# Altium schematic symbol library MCU_Microchip_ATtiny.SchLib: 223 symbols (part 1 of 3)
Pins are listed as number, name and electrical type; pins without a type are passive.

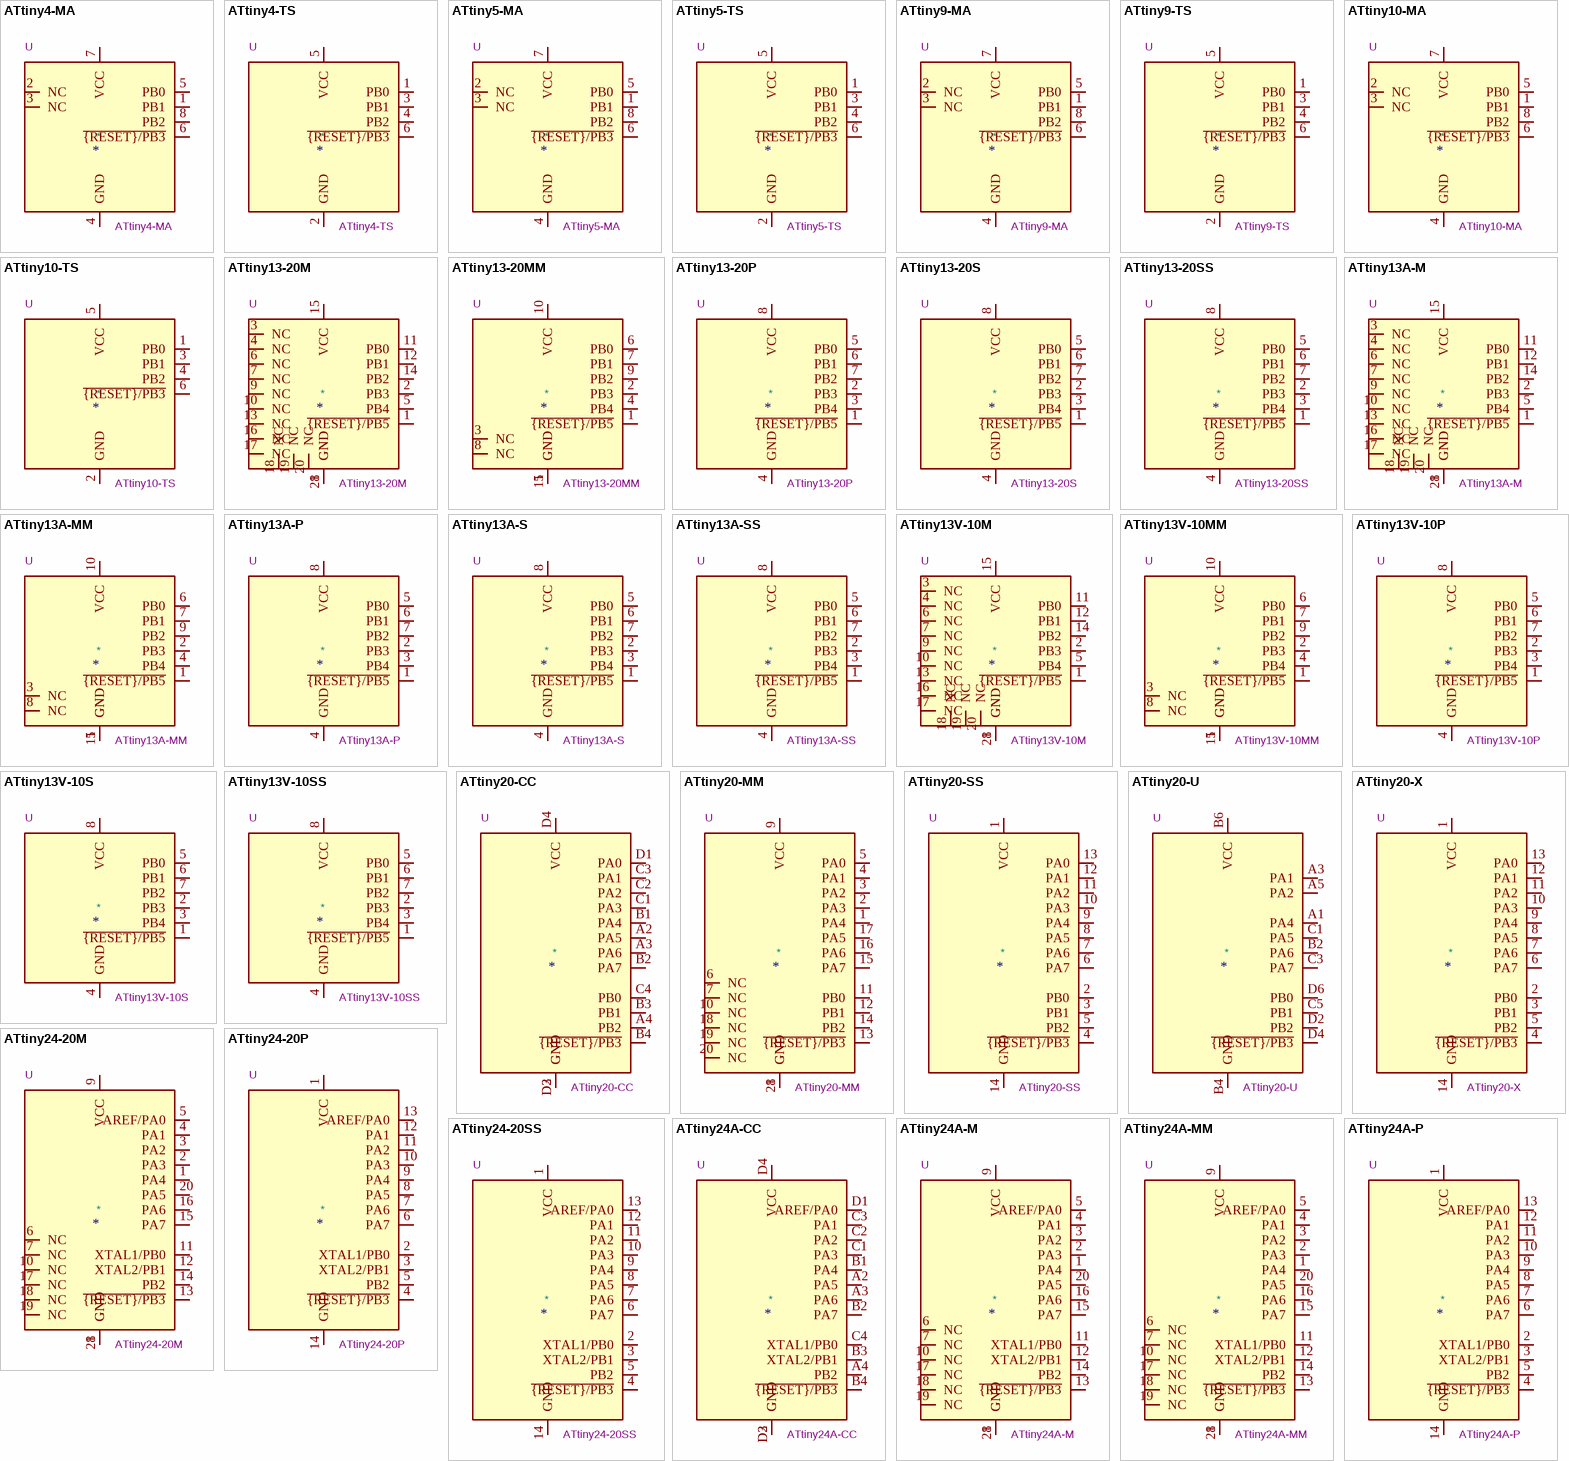
[diagram p0: symbols ATtiny4-MA to ATtiny24A-P]

## ATtiny4-MA
designator *  value ATtiny4-MA  Reference: U
12MHz, 512B Flash, 32B SRAM, No EEPROM, DFN-8; ki_keywords: AVR 8bit Microcontroller tinyAVR; ki_fp_filters: DFN*1EP*2x2mm*P0.5mm*; Footprint: Package_DFN_QFN:DFN-8-1EP_2x2mm_P0.5mm_EP0.9x1.5mm; Datasheet: http://ww1.microchip.com/downloads/en/DeviceDoc/Atmel-8127-AVR-8-bit-Microcontroller-ATtiny4-ATtiny5-ATtiny9-ATtiny10_Datasheet.pdf; Description_: 12MHz, 512B Flash, 32B SRAM, No EEPROM, DFN-8
pins: 1 PB1, 2 NC, 3 NC, 4 GND, 5 PB0, 6 ~{{RESET}/PB3}, 7 VCC, 8 PB2

## ATtiny4-TS
designator *  value ATtiny4-TS  Reference: U
12MHz, 512B Flash, 32B SRAM, No EEPROM, SOT-23-6; ki_keywords: AVR 8bit Microcontroller tinyAVR; ki_fp_filters: SOT?23?6*; Footprint: Package_TO_SOT_SMD:SOT-23-6; Datasheet: http://ww1.microchip.com/downloads/en/DeviceDoc/Atmel-8127-AVR-8-bit-Microcontroller-ATtiny4-ATtiny5-ATtiny9-ATtiny10_Datasheet.pdf; Description_: 12MHz, 512B Flash, 32B SRAM, No EEPROM, SOT-23-6
pins: 1 PB0, 2 GND, 3 PB1, 4 PB2, 5 VCC, 6 ~{{RESET}/PB3}

## ATtiny5-MA
designator *  value ATtiny5-MA  Reference: U
12MHz, 512B Flash, 32B SRAM, No EEPROM, ADC, DFN-8; ki_keywords: AVR 8bit Microcontroller tinyAVR; ki_fp_filters: DFN*1EP*2x2mm*P0.5mm*; Footprint: Package_DFN_QFN:DFN-8-1EP_2x2mm_P0.5mm_EP0.9x1.5mm; Datasheet: http://ww1.microchip.com/downloads/en/DeviceDoc/Atmel-8127-AVR-8-bit-Microcontroller-ATtiny4-ATtiny5-ATtiny9-ATtiny10_Datasheet.pdf; Description_: 12MHz, 512B Flash, 32B SRAM, No EEPROM, ADC, DFN-8
pins: 1 PB1, 2 NC, 3 NC, 4 GND, 5 PB0, 6 ~{{RESET}/PB3}, 7 VCC, 8 PB2

## ATtiny5-TS
designator *  value ATtiny5-TS  Reference: U
12MHz, 512B Flash, 32B SRAM, No EEPROM, ADC, SOT-23-6; ki_keywords: AVR 8bit Microcontroller tinyAVR; ki_fp_filters: SOT?23?6*; Footprint: Package_TO_SOT_SMD:SOT-23-6; Datasheet: http://ww1.microchip.com/downloads/en/DeviceDoc/Atmel-8127-AVR-8-bit-Microcontroller-ATtiny4-ATtiny5-ATtiny9-ATtiny10_Datasheet.pdf; Description_: 12MHz, 512B Flash, 32B SRAM, No EEPROM, ADC, SOT-23-6
pins: 1 PB0, 2 GND, 3 PB1, 4 PB2, 5 VCC, 6 ~{{RESET}/PB3}

## ATtiny9-MA
designator *  value ATtiny9-MA  Reference: U
12MHz, 1kB Flash, 32B SRAM, No EEPROM, DFN-8; ki_keywords: AVR 8bit Microcontroller tinyAVR; ki_fp_filters: DFN*1EP*2x2mm*P0.5mm*; Footprint: Package_DFN_QFN:DFN-8-1EP_2x2mm_P0.5mm_EP0.9x1.5mm; Datasheet: http://ww1.microchip.com/downloads/en/DeviceDoc/Atmel-8127-AVR-8-bit-Microcontroller-ATtiny4-ATtiny5-ATtiny9-ATtiny10_Datasheet.pdf; Description_: 12MHz, 1kB Flash, 32B SRAM, No EEPROM, DFN-8
pins: 1 PB1, 2 NC, 3 NC, 4 GND, 5 PB0, 6 ~{{RESET}/PB3}, 7 VCC, 8 PB2

## ATtiny9-TS
designator *  value ATtiny9-TS  Reference: U
12MHz, 1kB Flash, 32B SRAM, No EEPROM, SOT-23-6; ki_keywords: AVR 8bit Microcontroller tinyAVR; ki_fp_filters: SOT?23?6*; Footprint: Package_TO_SOT_SMD:SOT-23-6; Datasheet: http://ww1.microchip.com/downloads/en/DeviceDoc/Atmel-8127-AVR-8-bit-Microcontroller-ATtiny4-ATtiny5-ATtiny9-ATtiny10_Datasheet.pdf; Description_: 12MHz, 1kB Flash, 32B SRAM, No EEPROM, SOT-23-6
pins: 1 PB0, 2 GND, 3 PB1, 4 PB2, 5 VCC, 6 ~{{RESET}/PB3}

## ATtiny10-MA
designator *  value ATtiny10-MA  Reference: U
12MHz, 1kB Flash, 32B SRAM, No EEPROM, ADC, DFN-8; ki_keywords: AVR 8bit Microcontroller tinyAVR; ki_fp_filters: DFN*1EP*2x2mm*P0.5mm*; Footprint: Package_DFN_QFN:DFN-8-1EP_2x2mm_P0.5mm_EP0.9x1.5mm; Datasheet: http://ww1.microchip.com/downloads/en/DeviceDoc/Atmel-8127-AVR-8-bit-Microcontroller-ATtiny4-ATtiny5-ATtiny9-ATtiny10_Datasheet.pdf; Description_: 12MHz, 1kB Flash, 32B SRAM, No EEPROM, ADC, DFN-8
pins: 1 PB1, 2 NC, 3 NC, 4 GND, 5 PB0, 6 ~{{RESET}/PB3}, 7 VCC, 8 PB2

## ATtiny10-TS
designator *  value ATtiny10-TS  Reference: U
12MHz, 1kB Flash, 32B SRAM, No EEPROM, ADC, SOT-23-6; ki_keywords: AVR 8bit Microcontroller tinyAVR; ki_fp_filters: SOT?23?6*; Footprint: Package_TO_SOT_SMD:SOT-23-6; Datasheet: http://ww1.microchip.com/downloads/en/DeviceDoc/Atmel-8127-AVR-8-bit-Microcontroller-ATtiny4-ATtiny5-ATtiny9-ATtiny10_Datasheet.pdf; Description_: 12MHz, 1kB Flash, 32B SRAM, No EEPROM, ADC, SOT-23-6
pins: 1 PB0, 2 GND, 3 PB1, 4 PB2, 5 VCC, 6 ~{{RESET}/PB3}

## ATtiny13-20M
designator *  value ATtiny13-20M  Reference: U
20MHz, 1kB Flash, 64B SRAM, 64B EEPROM, debugWIRE, QFN-20; ki_keywords: AVR 8bit Microcontroller tinyAVR; ki_fp_filters: QFN*1EP*4x4mm*P0.5mm*; Footprint: Package_DFN_QFN:QFN-20-1EP_4x4mm_P0.5mm_EP2.6x2.6mm; Datasheet: http://ww1.microchip.com/downloads/en/DeviceDoc/doc2535.pdf; Description_: 20MHz, 1kB Flash, 64B SRAM, 64B EEPROM, debugWIRE, QFN-20
pins: 1 ~{{RESET}/PB5}, 2 PB3, 3 NC, 4 NC, 5 PB4, 6 NC, 7 NC, 8 GND, 9 NC, 10 NC, 11 PB0, 12 PB1, 13 NC, 14 PB2, 15 VCC, 16 NC, 17 NC, 18 NC, 19 NC, 20 NC, 21 GND

## ATtiny13-20MM
designator *  value ATtiny13-20MM  Reference: U
20MHz, 1kB Flash, 64B SRAM, 64B EEPROM, debugWIRE, DFN-10; ki_keywords: AVR 8bit Microcontroller tinyAVR; ki_fp_filters: DFN*1EP*3x3mm*P0.5mm*; Footprint: Package_DFN_QFN:DFN-10-1EP_3x3mm_P0.5mm_EP1.75x2.7mm; Datasheet: http://ww1.microchip.com/downloads/en/DeviceDoc/doc2535.pdf; Description_: 20MHz, 1kB Flash, 64B SRAM, 64B EEPROM, debugWIRE, DFN-10
pins: 1 ~{{RESET}/PB5}, 2 PB3, 3 NC, 4 PB4, 5 GND, 6 PB0, 7 PB1, 8 NC, 9 PB2, 10 VCC, 11 GND

## ATtiny13-20P
designator *  value ATtiny13-20P  Reference: U
20MHz, 1kB Flash, 64B SRAM, 64B EEPROM, debugWIRE, DIP-8; ki_keywords: AVR 8bit Microcontroller tinyAVR; ki_fp_filters: DIP*W7.62mm*; Footprint: Package_DIP:DIP-8_W7.62mm; Datasheet: http://ww1.microchip.com/downloads/en/DeviceDoc/doc2535.pdf; Description_: 20MHz, 1kB Flash, 64B SRAM, 64B EEPROM, debugWIRE, DIP-8
pins: 1 ~{{RESET}/PB5}, 2 PB3, 3 PB4, 4 GND, 5 PB0, 6 PB1, 7 PB2, 8 VCC

## ATtiny13-20S
designator *  value ATtiny13-20S  Reference: U
20MHz, 1kB Flash, 64B SRAM, 64B EEPROM, debugWIRE, SOIC-8 (208 mil); ki_keywords: AVR 8bit Microcontroller tinyAVR; ki_fp_filters: *SOIC*5.3x5.3mm*P1.27mm*; Footprint: Package_SO:SOIC-8_5.3x5.3mm_P1.27mm; Datasheet: http://ww1.microchip.com/downloads/en/DeviceDoc/doc2535.pdf; Description_: 20MHz, 1kB Flash, 64B SRAM, 64B EEPROM, debugWIRE, SOIC-8 (208 mil)
pins: 1 ~{{RESET}/PB5}, 2 PB3, 3 PB4, 4 GND, 5 PB0, 6 PB1, 7 PB2, 8 VCC

## ATtiny13-20SS
designator *  value ATtiny13-20SS  Reference: U
20MHz, 1kB Flash, 64B SRAM, 64B EEPROM, debugWIRE, SOIC-8 (150 mil); ki_keywords: AVR 8bit Microcontroller tinyAVR; ki_fp_filters: SOIC*3.9x4.9mm*P1.27mm*; Footprint: Package_SO:SOIC-8_3.9x4.9mm_P1.27mm; Datasheet: http://ww1.microchip.com/downloads/en/DeviceDoc/doc2535.pdf; Description_: 20MHz, 1kB Flash, 64B SRAM, 64B EEPROM, debugWIRE, SOIC-8 (150 mil)
pins: 1 ~{{RESET}/PB5}, 2 PB3, 3 PB4, 4 GND, 5 PB0, 6 PB1, 7 PB2, 8 VCC

## ATtiny13A-M
designator *  value ATtiny13A-M  Reference: U
20MHz, 1kB Flash, 64B SRAM, 64B EEPROM, debugWIRE, QFN-20; ki_keywords: AVR 8bit Microcontroller tinyAVR; ki_fp_filters: QFN*1EP*4x4mm*P0.5mm*; Footprint: Package_DFN_QFN:QFN-20-1EP_4x4mm_P0.5mm_EP2.6x2.6mm; Datasheet: http://ww1.microchip.com/downloads/en/DeviceDoc/doc8126.pdf; Description_: 20MHz, 1kB Flash, 64B SRAM, 64B EEPROM, debugWIRE, QFN-20
pins: 1 ~{{RESET}/PB5}, 2 PB3, 3 NC, 4 NC, 5 PB4, 6 NC, 7 NC, 8 GND, 9 NC, 10 NC, 11 PB0, 12 PB1, 13 NC, 14 PB2, 15 VCC, 16 NC, 17 NC, 18 NC, 19 NC, 20 NC, 21 GND

## ATtiny13A-MM
designator *  value ATtiny13A-MM  Reference: U
20MHz, 1kB Flash, 64B SRAM, 64B EEPROM, debugWIRE, DFN-10; ki_keywords: AVR 8bit Microcontroller tinyAVR; ki_fp_filters: DFN*1EP*3x3mm*P0.5mm*; Footprint: Package_DFN_QFN:DFN-10-1EP_3x3mm_P0.5mm_EP1.75x2.7mm; Datasheet: http://ww1.microchip.com/downloads/en/DeviceDoc/doc8126.pdf; Description_: 20MHz, 1kB Flash, 64B SRAM, 64B EEPROM, debugWIRE, DFN-10
pins: 1 ~{{RESET}/PB5}, 2 PB3, 3 NC, 4 PB4, 5 GND, 6 PB0, 7 PB1, 8 NC, 9 PB2, 10 VCC, 11 GND

## ATtiny13A-P
designator *  value ATtiny13A-P  Reference: U
20MHz, 1kB Flash, 64B SRAM, 64B EEPROM, debugWIRE, DIP-8; ki_keywords: AVR 8bit Microcontroller tinyAVR; ki_fp_filters: DIP*W7.62mm*; Footprint: Package_DIP:DIP-8_W7.62mm; Datasheet: http://ww1.microchip.com/downloads/en/DeviceDoc/doc8126.pdf; Description_: 20MHz, 1kB Flash, 64B SRAM, 64B EEPROM, debugWIRE, DIP-8
pins: 1 ~{{RESET}/PB5}, 2 PB3, 3 PB4, 4 GND, 5 PB0, 6 PB1, 7 PB2, 8 VCC

## ATtiny13A-S
designator *  value ATtiny13A-S  Reference: U
20MHz, 1kB Flash, 64B SRAM, 64B EEPROM, debugWIRE, SOIC-8 (208 mil); ki_keywords: AVR 8bit Microcontroller tinyAVR; ki_fp_filters: *SOIC*5.3x5.3mm*P1.27mm*; Footprint: Package_SO:SOIC-8_5.3x5.3mm_P1.27mm; Datasheet: https://ww1.microchip.com/downloads/aemDocuments/documents/MCU08/ProductDocuments/DataSheets/ATtiny13A-Data-Sheet-DS40002307A.pdf; Description_: 20MHz, 1kB Flash, 64B SRAM, 64B EEPROM, debugWIRE, SOIC-8 (208 mil)
pins: 1 ~{{RESET}/PB5}, 2 PB3, 3 PB4, 4 GND, 5 PB0, 6 PB1, 7 PB2, 8 VCC

## ATtiny13A-SS
designator *  value ATtiny13A-SS  Reference: U
20MHz, 1kB Flash, 64B SRAM, 64B EEPROM, debugWIRE, SOIC-8 (150 mil); ki_keywords: AVR 8bit Microcontroller tinyAVR; ki_fp_filters: SOIC*3.9x4.9mm*P1.27mm*; Footprint: Package_SO:SOIC-8_3.9x4.9mm_P1.27mm; Datasheet: http://ww1.microchip.com/downloads/en/DeviceDoc/doc8126.pdf; Description_: 20MHz, 1kB Flash, 64B SRAM, 64B EEPROM, debugWIRE, SOIC-8 (150 mil)
pins: 1 ~{{RESET}/PB5}, 2 PB3, 3 PB4, 4 GND, 5 PB0, 6 PB1, 7 PB2, 8 VCC

## ATtiny13V-10M
designator *  value ATtiny13V-10M  Reference: U
10MHz, 1kB Flash, 64B SRAM, 64B EEPROM, debugWIRE, QFN-20; ki_keywords: AVR 8bit Microcontroller tinyAVR; ki_fp_filters: QFN*1EP*4x4mm*P0.5mm*; Footprint: Package_DFN_QFN:QFN-20-1EP_4x4mm_P0.5mm_EP2.6x2.6mm; Datasheet: http://ww1.microchip.com/downloads/en/DeviceDoc/doc2535.pdf; Description_: 10MHz, 1kB Flash, 64B SRAM, 64B EEPROM, debugWIRE, QFN-20
pins: 1 ~{{RESET}/PB5}, 2 PB3, 3 NC, 4 NC, 5 PB4, 6 NC, 7 NC, 8 GND, 9 NC, 10 NC, 11 PB0, 12 PB1, 13 NC, 14 PB2, 15 VCC, 16 NC, 17 NC, 18 NC, 19 NC, 20 NC, 21 GND

## ATtiny13V-10MM
designator *  value ATtiny13V-10MM  Reference: U
10MHz, 1kB Flash, 64B SRAM, 64B EEPROM, debugWIRE, DFN-10; ki_keywords: AVR 8bit Microcontroller tinyAVR; ki_fp_filters: DFN*1EP*3x3mm*P0.5mm*; Footprint: Package_DFN_QFN:DFN-10-1EP_3x3mm_P0.5mm_EP1.75x2.7mm; Datasheet: http://ww1.microchip.com/downloads/en/DeviceDoc/doc2535.pdf; Description_: 10MHz, 1kB Flash, 64B SRAM, 64B EEPROM, debugWIRE, DFN-10
pins: 1 ~{{RESET}/PB5}, 2 PB3, 3 NC, 4 PB4, 5 GND, 6 PB0, 7 PB1, 8 NC, 9 PB2, 10 VCC, 11 GND

## ATtiny13V-10P
designator *  value ATtiny13V-10P  Reference: U
10MHz, 1kB Flash, 64B SRAM, 64B EEPROM, debugWIRE, DIP-8; ki_keywords: AVR 8bit Microcontroller tinyAVR; ki_fp_filters: DIP*W7.62mm*; Footprint: Package_DIP:DIP-8_W7.62mm; Datasheet: http://ww1.microchip.com/downloads/en/DeviceDoc/doc2535.pdf; Description_: 10MHz, 1kB Flash, 64B SRAM, 64B EEPROM, debugWIRE, DIP-8
pins: 1 ~{{RESET}/PB5}, 2 PB3, 3 PB4, 4 GND, 5 PB0, 6 PB1, 7 PB2, 8 VCC

## ATtiny13V-10S
designator *  value ATtiny13V-10S  Reference: U
10MHz, 1kB Flash, 64B SRAM, 64B EEPROM, debugWIRE, SOIC-8 (208 mil); ki_keywords: AVR 8bit Microcontroller tinyAVR; ki_fp_filters: *SOIC*5.3x5.3mm*P1.27mm*; Footprint: Package_SO:SOIC-8_5.3x5.3mm_P1.27mm; Datasheet: http://ww1.microchip.com/downloads/en/DeviceDoc/doc2535.pdf; Description_: 10MHz, 1kB Flash, 64B SRAM, 64B EEPROM, debugWIRE, SOIC-8 (208 mil)
pins: 1 ~{{RESET}/PB5}, 2 PB3, 3 PB4, 4 GND, 5 PB0, 6 PB1, 7 PB2, 8 VCC

## ATtiny13V-10SS
designator *  value ATtiny13V-10SS  Reference: U
10MHz, 1kB Flash, 64B SRAM, 64B EEPROM, debugWIRE, SOIC-8 (150 mil); ki_keywords: AVR 8bit Microcontroller tinyAVR; ki_fp_filters: SOIC*3.9x4.9mm*P1.27mm*; Footprint: Package_SO:SOIC-8_3.9x4.9mm_P1.27mm; Datasheet: http://ww1.microchip.com/downloads/en/DeviceDoc/doc2535.pdf; Description_: 10MHz, 1kB Flash, 64B SRAM, 64B EEPROM, debugWIRE, SOIC-8 (150 mil)
pins: 1 ~{{RESET}/PB5}, 2 PB3, 3 PB4, 4 GND, 5 PB0, 6 PB1, 7 PB2, 8 VCC

## ATtiny20-CC
designator *  value ATtiny20-CC  Reference: U
12MHz, 2kB Flash, 128B SRAM, No EEPROM, UFBGA-15; ki_keywords: AVR 8bit Microcontroller tinyAVR; ki_fp_filters: UFBGA*3.0x3.0mm*Layout4x4*P0.65mm*; Footprint: Package_BGA:UFBGA-15_3.0x3.0mm_Layout4x4_P0.65mm; Datasheet: http://ww1.microchip.com/downloads/en/DeviceDoc/atmel-8235-8-bit-avr-microcontroller-attiny20_datasheet.pdf; Description_: 12MHz, 2kB Flash, 128B SRAM, No EEPROM, UFBGA-15
pins: A2 PA5, A3 PA6, A4 PB2, B1 PA4, B2 PA7, B3 PB1, B4 ~{{RESET}/PB3}, C1 PA3, C2 PA2, C3 PA1, C4 PB0, D1 PA0, D2 GND, D3 GND, D4 VCC

## ATtiny20-MM
designator *  value ATtiny20-MM  Reference: U
12MHz, 2kB Flash, 128B SRAM, No EEPROM, QFN-20; ki_keywords: AVR 8bit Microcontroller tinyAVR; ki_fp_filters: QFN*1EP*3x3mm*P0.45mm*; Footprint: Package_DFN_QFN:QFN-20-1EP_3x3mm_P0.45mm_EP1.6x1.6mm; Datasheet: http://ww1.microchip.com/downloads/en/DeviceDoc/atmel-8235-8-bit-avr-microcontroller-attiny20_datasheet.pdf; Description_: 12MHz, 2kB Flash, 128B SRAM, No EEPROM, QFN-20
pins: 1 PA4, 2 PA3, 3 PA2, 4 PA1, 5 PA0, 6 NC, 7 NC, 8 GND, 9 VCC, 10 NC, 11 PB0, 12 PB1, 13 ~{{RESET}/PB3}, 14 PB2, 15 PA7, 16 PA6, 17 PA5, 18 NC, 19 NC, 20 NC, 21 GND

## ATtiny20-SS
designator *  value ATtiny20-SS  Reference: U
12MHz, 2kB Flash, 128B SRAM, No EEPROM, SOIC-14; ki_keywords: AVR 8bit Microcontroller tinyAVR; ki_fp_filters: SOIC*3.9x8.7mm*P1.27mm*; Footprint: Package_SO:SOIC-14_3.9x8.7mm_P1.27mm; Datasheet: http://ww1.microchip.com/downloads/en/DeviceDoc/atmel-8235-8-bit-avr-microcontroller-attiny20_datasheet.pdf; Description_: 12MHz, 2kB Flash, 128B SRAM, No EEPROM, SOIC-14
pins: 1 VCC, 2 PB0, 3 PB1, 4 ~{{RESET}/PB3}, 5 PB2, 6 PA7, 7 PA6, 8 PA5, 9 PA4, 10 PA3, 11 PA2, 12 PA1, 13 PA0, 14 GND

## ATtiny20-U
designator *  value ATtiny20-U  Reference: U
12MHz, 2kB Flash, 128B SRAM, No EEPROM, WLCSP-12; ki_keywords: AVR 8bit Microcontroller tinyAVR; ki_fp_filters: WLCSP*1.403x1.555mm*Layout6x4*P0.4mm*Stagger*; Footprint: Package_CSP:WLCSP-12_1.403x1.555mm_Layout6x4_P0.4mm_Stagger; Datasheet: http://ww1.microchip.com/downloads/en/DeviceDoc/atmel-8235-8-bit-avr-microcontroller-attiny20_datasheet.pdf; Description_: 12MHz, 2kB Flash, 128B SRAM, No EEPROM, WLCSP-12
pins: A1 PA4, A3 PA1, A5 PA2, B2 PA6, B4 GND, B6 VCC, C1 PA5, C3 PA7, C5 PB1, D2 PB2, D4 ~{{RESET}/PB3}, D6 PB0

## ATtiny20-X
designator *  value ATtiny20-X  Reference: U
12MHz, 2kB Flash, 128B SRAM, No EEPROM, TSSOP-14; ki_keywords: AVR 8bit Microcontroller tinyAVR; ki_fp_filters: TSSOP*4.4x5mm*P0.65mm*; Footprint: Package_SO:TSSOP-14_4.4x5mm_P0.65mm; Datasheet: http://ww1.microchip.com/downloads/en/DeviceDoc/atmel-8235-8-bit-avr-microcontroller-attiny20_datasheet.pdf; Description_: 12MHz, 2kB Flash, 128B SRAM, No EEPROM, TSSOP-14
pins: 1 VCC, 2 PB0, 3 PB1, 4 ~{{RESET}/PB3}, 5 PB2, 6 PA7, 7 PA6, 8 PA5, 9 PA4, 10 PA3, 11 PA2, 12 PA1, 13 PA0, 14 GND

## ATtiny24-20M
designator *  value ATtiny24-20M  Reference: U
20MHz, 2kB Flash, 128B SRAM, 128B EEPROM, debugWIRE, QFN-20; ki_keywords: AVR 8bit Microcontroller tinyAVR; ki_fp_filters: QFN*1EP*4x4mm*P0.5mm*; Footprint: Package_DFN_QFN:QFN-20-1EP_4x4mm_P0.5mm_EP2.6x2.6mm; Datasheet: http://ww1.microchip.com/downloads/en/DeviceDoc/doc8006.pdf; Description_: 20MHz, 2kB Flash, 128B SRAM, 128B EEPROM, debugWIRE, QFN-20
pins: 1 PA4, 2 PA3, 3 PA2, 4 PA1, 5 AREF/PA0, 6 NC, 7 NC, 8 GND, 9 VCC, 10 NC, 11 XTAL1/PB0, 12 XTAL2/PB1, 13 ~{{RESET}/PB3}, 14 PB2, 15 PA7, 16 PA6, 17 NC, 18 NC, 19 NC, 20 PA5, 21 GND

## ATtiny24-20P
designator *  value ATtiny24-20P  Reference: U
20MHz, 2kB Flash, 128B SRAM, 128B EEPROM, debugWIRE, DIP-14; ki_keywords: AVR 8bit Microcontroller tinyAVR; ki_fp_filters: DIP*W7.62mm*; Footprint: Package_DIP:DIP-14_W7.62mm; Datasheet: http://ww1.microchip.com/downloads/en/DeviceDoc/doc8006.pdf; Description_: 20MHz, 2kB Flash, 128B SRAM, 128B EEPROM, debugWIRE, DIP-14
pins: 1 VCC, 2 XTAL1/PB0, 3 XTAL2/PB1, 4 ~{{RESET}/PB3}, 5 PB2, 6 PA7, 7 PA6, 8 PA5, 9 PA4, 10 PA3, 11 PA2, 12 PA1, 13 AREF/PA0, 14 GND

## ATtiny24-20SS
designator *  value ATtiny24-20SS  Reference: U
20MHz, 2kB Flash, 128B SRAM, 128B EEPROM, debugWIRE, SOIC-14; ki_keywords: AVR 8bit Microcontroller tinyAVR; ki_fp_filters: SOIC*3.9x8.7mm*P1.27mm*; Footprint: Package_SO:SOIC-14_3.9x8.7mm_P1.27mm; Datasheet: http://ww1.microchip.com/downloads/en/DeviceDoc/doc8006.pdf; Description_: 20MHz, 2kB Flash, 128B SRAM, 128B EEPROM, debugWIRE, SOIC-14
pins: 1 VCC, 2 XTAL1/PB0, 3 XTAL2/PB1, 4 ~{{RESET}/PB3}, 5 PB2, 6 PA7, 7 PA6, 8 PA5, 9 PA4, 10 PA3, 11 PA2, 12 PA1, 13 AREF/PA0, 14 GND

## ATtiny24A-CC
designator *  value ATtiny24A-CC  Reference: U
20MHz, 2kB Flash, 128B SRAM, 128B EEPROM, debugWIRE, UFBGA-15; ki_keywords: AVR 8bit Microcontroller tinyAVR; ki_fp_filters: UFBGA*3.0x3.0mm*Layout4x4*P0.65mm*; Footprint: Package_BGA:UFBGA-15_3.0x3.0mm_Layout4x4_P0.65mm; Datasheet: http://ww1.microchip.com/downloads/en/DeviceDoc/doc8183.pdf; Description_: 20MHz, 2kB Flash, 128B SRAM, 128B EEPROM, debugWIRE, UFBGA-15
pins: A2 PA5, A3 PA6, A4 PB2, B1 PA4, B2 PA7, B3 XTAL2/PB1, B4 ~{{RESET}/PB3}, C1 PA3, C2 PA2, C3 PA1, C4 XTAL1/PB0, D1 AREF/PA0, D2 GND, D3 GND, D4 VCC

## ATtiny24A-M
designator *  value ATtiny24A-M  Reference: U
20MHz, 2kB Flash, 128B SRAM, 128B EEPROM, debugWIRE, QFN-20; ki_keywords: AVR 8bit Microcontroller tinyAVR; ki_fp_filters: QFN*1EP*4x4mm*P0.5mm*; Footprint: Package_DFN_QFN:QFN-20-1EP_4x4mm_P0.5mm_EP2.6x2.6mm; Datasheet: http://ww1.microchip.com/downloads/en/DeviceDoc/doc8183.pdf; Description_: 20MHz, 2kB Flash, 128B SRAM, 128B EEPROM, debugWIRE, QFN-20
pins: 1 PA4, 2 PA3, 3 PA2, 4 PA1, 5 AREF/PA0, 6 NC, 7 NC, 8 GND, 9 VCC, 10 NC, 11 XTAL1/PB0, 12 XTAL2/PB1, 13 ~{{RESET}/PB3}, 14 PB2, 15 PA7, 16 PA6, 17 NC, 18 NC, 19 NC, 20 PA5, 21 GND

## ATtiny24A-MM
designator *  value ATtiny24A-MM  Reference: U
20MHz, 2kB Flash, 128B SRAM, 128B EEPROM, debugWIRE, QFN-20; ki_keywords: AVR 8bit Microcontroller tinyAVR; ki_fp_filters: QFN*1EP*3x3mm*P0.45mm*; Footprint: Package_DFN_QFN:QFN-20-1EP_3x3mm_P0.45mm_EP1.6x1.6mm; Datasheet: http://ww1.microchip.com/downloads/en/DeviceDoc/doc8183.pdf; Description_: 20MHz, 2kB Flash, 128B SRAM, 128B EEPROM, debugWIRE, QFN-20
pins: 1 PA4, 2 PA3, 3 PA2, 4 PA1, 5 AREF/PA0, 6 NC, 7 NC, 8 GND, 9 VCC, 10 NC, 11 XTAL1/PB0, 12 XTAL2/PB1, 13 ~{{RESET}/PB3}, 14 PB2, 15 PA7, 16 PA6, 17 NC, 18 NC, 19 NC, 20 PA5, 21 GND

## ATtiny24A-P
designator *  value ATtiny24A-P  Reference: U
20MHz, 2kB Flash, 128B SRAM, 128B EEPROM, debugWIRE, DIP-14; ki_keywords: AVR 8bit Microcontroller tinyAVR; ki_fp_filters: DIP*W7.62mm*; Footprint: Package_DIP:DIP-14_W7.62mm; Datasheet: http://ww1.microchip.com/downloads/en/DeviceDoc/doc8183.pdf; Description_: 20MHz, 2kB Flash, 128B SRAM, 128B EEPROM, debugWIRE, DIP-14
pins: 1 VCC, 2 XTAL1/PB0, 3 XTAL2/PB1, 4 ~{{RESET}/PB3}, 5 PB2, 6 PA7, 7 PA6, 8 PA5, 9 PA4, 10 PA3, 11 PA2, 12 PA1, 13 AREF/PA0, 14 GND

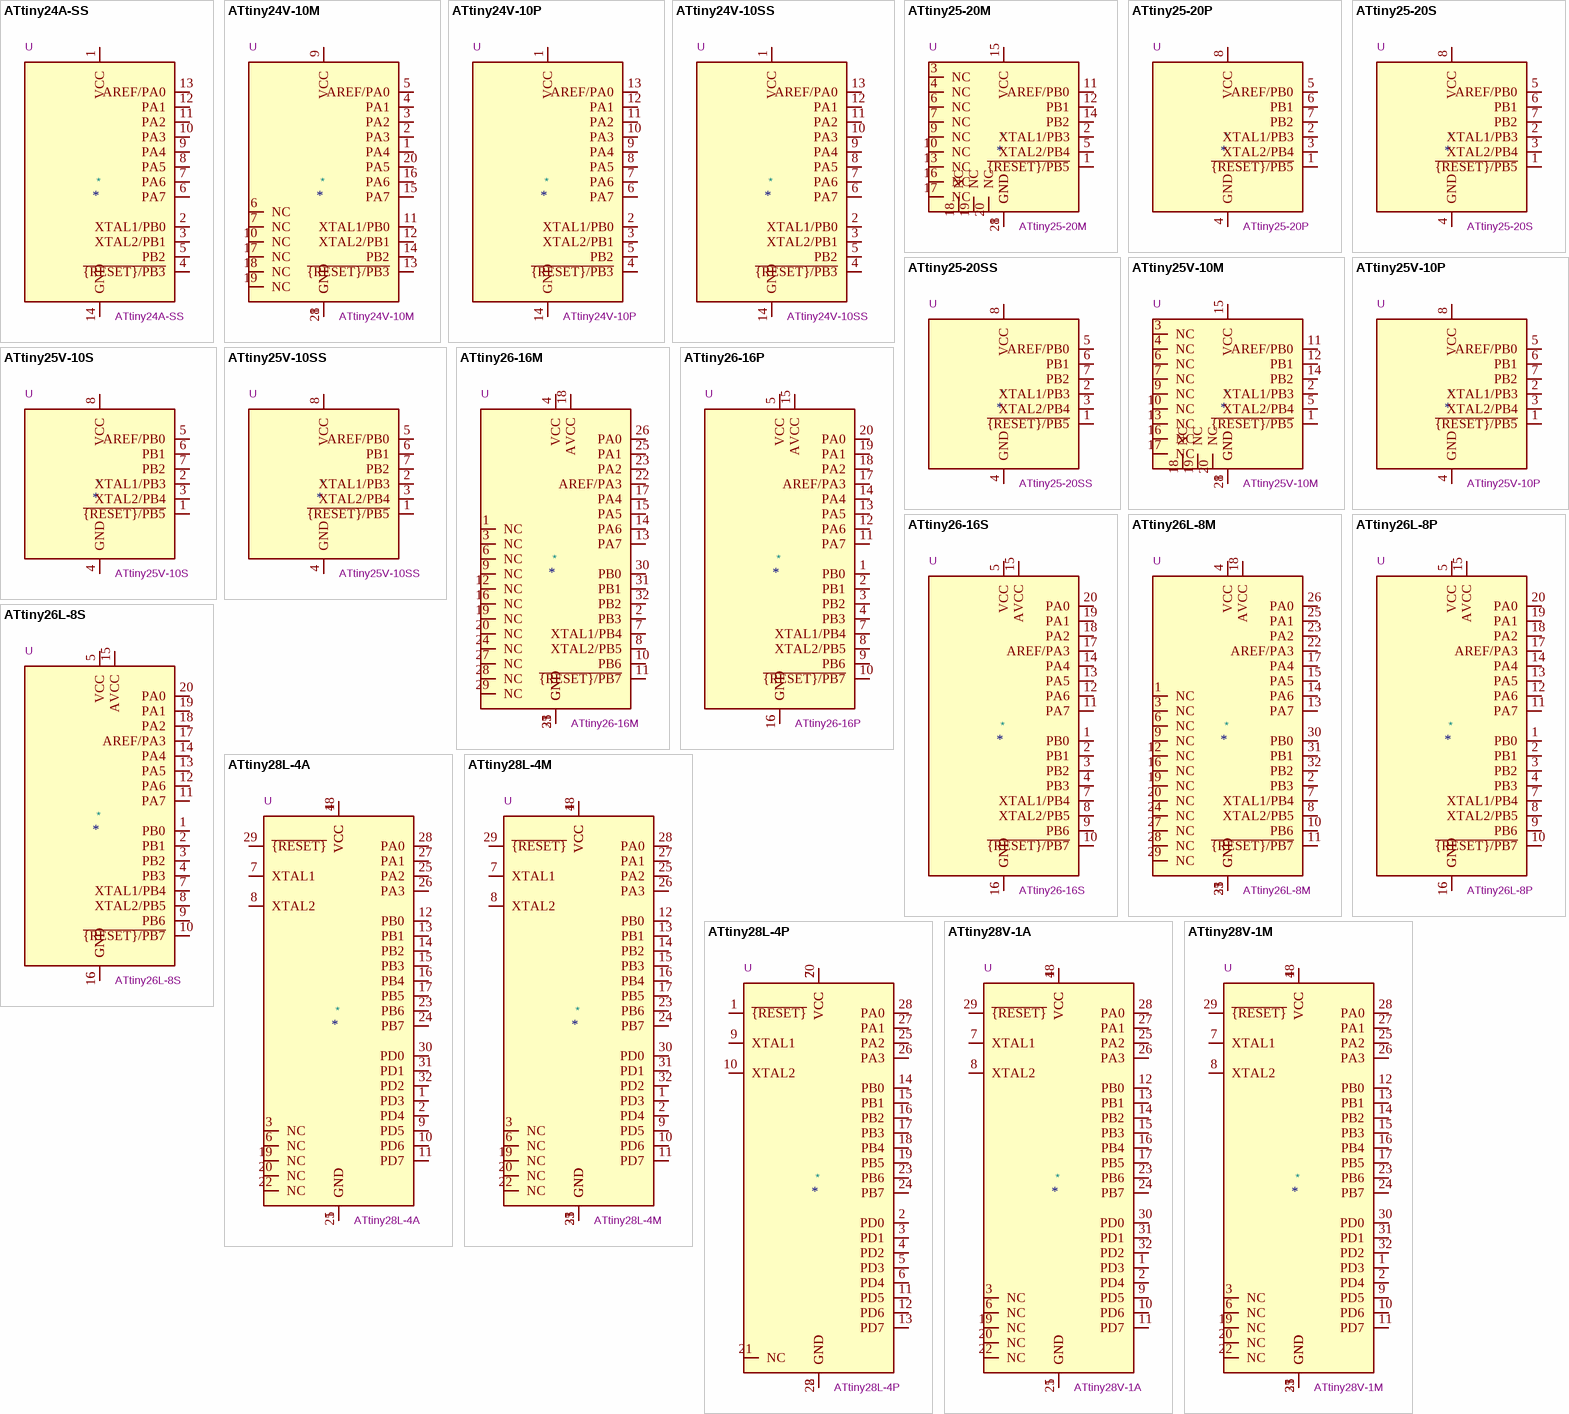
[diagram p1: symbols ATtiny24A-SS to ATtiny28V-1M]

## ATtiny24A-SS
designator *  value ATtiny24A-SS  Reference: U
20MHz, 2kB Flash, 128B SRAM, 128B EEPROM, debugWIRE, SOIC-14; ki_keywords: AVR 8bit Microcontroller tinyAVR; ki_fp_filters: SOIC*3.9x8.7mm*P1.27mm*; Footprint: Package_SO:SOIC-14_3.9x8.7mm_P1.27mm; Datasheet: http://ww1.microchip.com/downloads/en/DeviceDoc/doc8183.pdf; Description_: 20MHz, 2kB Flash, 128B SRAM, 128B EEPROM, debugWIRE, SOIC-14
pins: 1 VCC, 2 XTAL1/PB0, 3 XTAL2/PB1, 4 ~{{RESET}/PB3}, 5 PB2, 6 PA7, 7 PA6, 8 PA5, 9 PA4, 10 PA3, 11 PA2, 12 PA1, 13 AREF/PA0, 14 GND

## ATtiny24V-10M
designator *  value ATtiny24V-10M  Reference: U
10MHz, 2kB Flash, 128B SRAM, 128B EEPROM, debugWIRE, QFN-20; ki_keywords: AVR 8bit Microcontroller tinyAVR; ki_fp_filters: QFN*1EP*4x4mm*P0.5mm*; Footprint: Package_DFN_QFN:QFN-20-1EP_4x4mm_P0.5mm_EP2.6x2.6mm; Datasheet: http://ww1.microchip.com/downloads/en/DeviceDoc/doc8006.pdf; Description_: 10MHz, 2kB Flash, 128B SRAM, 128B EEPROM, debugWIRE, QFN-20
pins: 1 PA4, 2 PA3, 3 PA2, 4 PA1, 5 AREF/PA0, 6 NC, 7 NC, 8 GND, 9 VCC, 10 NC, 11 XTAL1/PB0, 12 XTAL2/PB1, 13 ~{{RESET}/PB3}, 14 PB2, 15 PA7, 16 PA6, 17 NC, 18 NC, 19 NC, 20 PA5, 21 GND

## ATtiny24V-10P
designator *  value ATtiny24V-10P  Reference: U
10MHz, 2kB Flash, 128B SRAM, 128B EEPROM, debugWIRE, DIP-14; ki_keywords: AVR 8bit Microcontroller tinyAVR; ki_fp_filters: DIP*W7.62mm*; Footprint: Package_DIP:DIP-14_W7.62mm; Datasheet: http://ww1.microchip.com/downloads/en/DeviceDoc/doc8006.pdf; Description_: 10MHz, 2kB Flash, 128B SRAM, 128B EEPROM, debugWIRE, DIP-14
pins: 1 VCC, 2 XTAL1/PB0, 3 XTAL2/PB1, 4 ~{{RESET}/PB3}, 5 PB2, 6 PA7, 7 PA6, 8 PA5, 9 PA4, 10 PA3, 11 PA2, 12 PA1, 13 AREF/PA0, 14 GND

## ATtiny24V-10SS
designator *  value ATtiny24V-10SS  Reference: U
10MHz, 2kB Flash, 128B SRAM, 128B EEPROM, debugWIRE, SOIC-14; ki_keywords: AVR 8bit Microcontroller tinyAVR; ki_fp_filters: SOIC*3.9x8.7mm*P1.27mm*; Footprint: Package_SO:SOIC-14_3.9x8.7mm_P1.27mm; Datasheet: http://ww1.microchip.com/downloads/en/DeviceDoc/doc8006.pdf; Description_: 10MHz, 2kB Flash, 128B SRAM, 128B EEPROM, debugWIRE, SOIC-14
pins: 1 VCC, 2 XTAL1/PB0, 3 XTAL2/PB1, 4 ~{{RESET}/PB3}, 5 PB2, 6 PA7, 7 PA6, 8 PA5, 9 PA4, 10 PA3, 11 PA2, 12 PA1, 13 AREF/PA0, 14 GND

## ATtiny25-20M
designator *  value ATtiny25-20M  Reference: U
20MHz, 2kB Flash, 128B SRAM, 128B EEPROM, debugWIRE, QFN-20; ki_keywords: AVR 8bit Microcontroller tinyAVR; ki_fp_filters: QFN*1EP*4x4mm*P0.5mm*; Footprint: Package_DFN_QFN:QFN-20-1EP_4x4mm_P0.5mm_EP2.6x2.6mm; Datasheet: http://ww1.microchip.com/downloads/en/DeviceDoc/atmel-2586-avr-8-bit-microcontroller-attiny25-attiny45-attiny85_datasheet.pdf; Description_: 20MHz, 2kB Flash, 128B SRAM, 128B EEPROM, debugWIRE, QFN-20
pins: 1 ~{{RESET}/PB5}, 2 XTAL1/PB3, 3 NC, 4 NC, 5 XTAL2/PB4, 6 NC, 7 NC, 8 GND, 9 NC, 10 NC, 11 AREF/PB0, 12 PB1, 13 NC, 14 PB2, 15 VCC, 16 NC, 17 NC, 18 NC, 19 NC, 20 NC, 21 GND

## ATtiny25-20P
designator *  value ATtiny25-20P  Reference: U
20MHz, 2kB Flash, 128B SRAM, 128B EEPROM, debugWIRE, DIP-8; ki_keywords: AVR 8bit Microcontroller tinyAVR; ki_fp_filters: DIP*W7.62mm*; Footprint: Package_DIP:DIP-8_W7.62mm; Datasheet: http://ww1.microchip.com/downloads/en/DeviceDoc/atmel-2586-avr-8-bit-microcontroller-attiny25-attiny45-attiny85_datasheet.pdf; Description_: 20MHz, 2kB Flash, 128B SRAM, 128B EEPROM, debugWIRE, DIP-8
pins: 1 ~{{RESET}/PB5}, 2 XTAL1/PB3, 3 XTAL2/PB4, 4 GND, 5 AREF/PB0, 6 PB1, 7 PB2, 8 VCC

## ATtiny25-20S
designator *  value ATtiny25-20S  Reference: U
20MHz, 2kB Flash, 128B SRAM, 128B EEPROM, debugWIRE, SOIC-8; ki_keywords: AVR 8bit Microcontroller tinyAVR; ki_fp_filters: *SOIC*5.3x5.3mm*P1.27mm*; Footprint: Package_SO:SOIC-8_5.3x5.3mm_P1.27mm; Datasheet: http://ww1.microchip.com/downloads/en/DeviceDoc/atmel-2586-avr-8-bit-microcontroller-attiny25-attiny45-attiny85_datasheet.pdf; Description_: 20MHz, 2kB Flash, 128B SRAM, 128B EEPROM, debugWIRE, SOIC-8
pins: 1 ~{{RESET}/PB5}, 2 XTAL1/PB3, 3 XTAL2/PB4, 4 GND, 5 AREF/PB0, 6 PB1, 7 PB2, 8 VCC

## ATtiny25-20SS
designator *  value ATtiny25-20SS  Reference: U
20MHz, 2kB Flash, 128B SRAM, 128B EEPROM, debugWIRE, SOIC-8; ki_keywords: AVR 8bit Microcontroller tinyAVR; ki_fp_filters: SOIC*3.9x4.9mm*P1.27mm*; Footprint: Package_SO:SOIC-8_3.9x4.9mm_P1.27mm; Datasheet: http://ww1.microchip.com/downloads/en/DeviceDoc/atmel-2586-avr-8-bit-microcontroller-attiny25-attiny45-attiny85_datasheet.pdf; Description_: 20MHz, 2kB Flash, 128B SRAM, 128B EEPROM, debugWIRE, SOIC-8
pins: 1 ~{{RESET}/PB5}, 2 XTAL1/PB3, 3 XTAL2/PB4, 4 GND, 5 AREF/PB0, 6 PB1, 7 PB2, 8 VCC

## ATtiny25V-10M
designator *  value ATtiny25V-10M  Reference: U
10MHz, 2kB Flash, 128B SRAM, 128B EEPROM, debugWIRE, QFN-20; ki_keywords: AVR 8bit Microcontroller tinyAVR; ki_fp_filters: QFN*1EP*4x4mm*P0.5mm*; Footprint: Package_DFN_QFN:QFN-20-1EP_4x4mm_P0.5mm_EP2.6x2.6mm; Datasheet: http://ww1.microchip.com/downloads/en/DeviceDoc/atmel-2586-avr-8-bit-microcontroller-attiny25-attiny45-attiny85_datasheet.pdf; Description_: 10MHz, 2kB Flash, 128B SRAM, 128B EEPROM, debugWIRE, QFN-20
pins: 1 ~{{RESET}/PB5}, 2 XTAL1/PB3, 3 NC, 4 NC, 5 XTAL2/PB4, 6 NC, 7 NC, 8 GND, 9 NC, 10 NC, 11 AREF/PB0, 12 PB1, 13 NC, 14 PB2, 15 VCC, 16 NC, 17 NC, 18 NC, 19 NC, 20 NC, 21 GND

## ATtiny25V-10P
designator *  value ATtiny25V-10P  Reference: U
10MHz, 2kB Flash, 128B SRAM, 128B EEPROM, debugWIRE, DIP-8; ki_keywords: AVR 8bit Microcontroller tinyAVR; ki_fp_filters: DIP*W7.62mm*; Footprint: Package_DIP:DIP-8_W7.62mm; Datasheet: http://ww1.microchip.com/downloads/en/DeviceDoc/atmel-2586-avr-8-bit-microcontroller-attiny25-attiny45-attiny85_datasheet.pdf; Description_: 10MHz, 2kB Flash, 128B SRAM, 128B EEPROM, debugWIRE, DIP-8
pins: 1 ~{{RESET}/PB5}, 2 XTAL1/PB3, 3 XTAL2/PB4, 4 GND, 5 AREF/PB0, 6 PB1, 7 PB2, 8 VCC

## ATtiny25V-10S
designator *  value ATtiny25V-10S  Reference: U
10MHz, 2kB Flash, 128B SRAM, 128B EEPROM, debugWIRE, SOIC-8 (208 mil); ki_keywords: AVR 8bit Microcontroller tinyAVR; ki_fp_filters: *SOIC*5.3x5.3mm*P1.27mm*; Footprint: Package_SO:SOIC-8_5.3x5.3mm_P1.27mm; Datasheet: http://ww1.microchip.com/downloads/en/DeviceDoc/atmel-2586-avr-8-bit-microcontroller-attiny25-attiny45-attiny85_datasheet.pdf; Description_: 10MHz, 2kB Flash, 128B SRAM, 128B EEPROM, debugWIRE, SOIC-8 (208 mil)
pins: 1 ~{{RESET}/PB5}, 2 XTAL1/PB3, 3 XTAL2/PB4, 4 GND, 5 AREF/PB0, 6 PB1, 7 PB2, 8 VCC

## ATtiny25V-10SS
designator *  value ATtiny25V-10SS  Reference: U
10MHz, 2kB Flash, 128B SRAM, 128B EEPROM, debugWIRE, SOIC-8 (150 mil); ki_keywords: AVR 8bit Microcontroller tinyAVR; ki_fp_filters: SOIC*3.9x4.9mm*P1.27mm*; Footprint: Package_SO:SOIC-8_3.9x4.9mm_P1.27mm; Datasheet: http://ww1.microchip.com/downloads/en/DeviceDoc/atmel-2586-avr-8-bit-microcontroller-attiny25-attiny45-attiny85_datasheet.pdf; Description_: 10MHz, 2kB Flash, 128B SRAM, 128B EEPROM, debugWIRE, SOIC-8 (150 mil)
pins: 1 ~{{RESET}/PB5}, 2 XTAL1/PB3, 3 XTAL2/PB4, 4 GND, 5 AREF/PB0, 6 PB1, 7 PB2, 8 VCC

## ATtiny26-16M
designator *  value ATtiny26-16M  Reference: U
16MHz, 2kB Flash, 128B SRAM, 128B EEPROM, QFN-32; ki_keywords: AVR 8bit Microcontroller tinyAVR; ki_fp_filters: QFN*1EP*5x5mm*P0.5mm*; Footprint: Package_DFN_QFN:QFN-32-1EP_5x5mm_P0.5mm_EP3.1x3.1mm; Datasheet: http://ww1.microchip.com/downloads/en/DeviceDoc/doc1477.pdf; Description_: 16MHz, 2kB Flash, 128B SRAM, 128B EEPROM, QFN-32
pins: 1 NC, 2 PB3, 3 NC, 4 VCC, 5 GND, 6 NC, 7 XTAL1/PB4, 8 XTAL2/PB5, 9 NC, 10 PB6, 11 ~{{RESET}/PB7}, 12 NC, 13 PA7, 14 PA6, 15 PA5, 16 NC, 17 PA4, 18 AVCC, 19 NC, 20 NC, 21 GND, 22 AREF/PA3, 23 PA2, 24 NC, 25 PA1, 26 PA0, 27 NC, 28 NC, 29 NC, 30 PB0, 31 PB1, 32 PB2, 33 GND

## ATtiny26-16P
designator *  value ATtiny26-16P  Reference: U
16MHz, 2kB Flash, 128B SRAM, 128B EEPROM, DIP-20; ki_keywords: AVR 8bit Microcontroller tinyAVR; ki_fp_filters: DIP*W7.62mm*; Footprint: Package_DIP:DIP-20_W7.62mm; Datasheet: http://ww1.microchip.com/downloads/en/DeviceDoc/doc1477.pdf; Description_: 16MHz, 2kB Flash, 128B SRAM, 128B EEPROM, DIP-20
pins: 1 PB0, 2 PB1, 3 PB2, 4 PB3, 5 VCC, 6 GND, 7 XTAL1/PB4, 8 XTAL2/PB5, 9 PB6, 10 ~{{RESET}/PB7}, 11 PA7, 12 PA6, 13 PA5, 14 PA4, 15 AVCC, 16 GND, 17 AREF/PA3, 18 PA2, 19 PA1, 20 PA0

## ATtiny26-16S
designator *  value ATtiny26-16S  Reference: U
16MHz, 2kB Flash, 128B SRAM, 128B EEPROM, SOIC-20; ki_keywords: AVR 8bit Microcontroller tinyAVR; ki_fp_filters: SOIC*7.5x12.8mm*P1.27mm*; Footprint: Package_SO:SOIC-20W_7.5x12.8mm_P1.27mm; Datasheet: http://ww1.microchip.com/downloads/en/DeviceDoc/doc1477.pdf; Description_: 16MHz, 2kB Flash, 128B SRAM, 128B EEPROM, SOIC-20
pins: 1 PB0, 2 PB1, 3 PB2, 4 PB3, 5 VCC, 6 GND, 7 XTAL1/PB4, 8 XTAL2/PB5, 9 PB6, 10 ~{{RESET}/PB7}, 11 PA7, 12 PA6, 13 PA5, 14 PA4, 15 AVCC, 16 GND, 17 AREF/PA3, 18 PA2, 19 PA1, 20 PA0

## ATtiny26L-8M
designator *  value ATtiny26L-8M  Reference: U
8MHz, 2kB Flash, 128B SRAM, 128B EEPROM, QFN-32; ki_keywords: AVR 8bit Microcontroller tinyAVR; ki_fp_filters: QFN*1EP*5x5mm*P0.5mm*; Footprint: Package_DFN_QFN:QFN-32-1EP_5x5mm_P0.5mm_EP3.1x3.1mm; Datasheet: http://ww1.microchip.com/downloads/en/DeviceDoc/doc1477.pdf; Description_: 8MHz, 2kB Flash, 128B SRAM, 128B EEPROM, QFN-32
pins: 1 NC, 2 PB3, 3 NC, 4 VCC, 5 GND, 6 NC, 7 XTAL1/PB4, 8 XTAL2/PB5, 9 NC, 10 PB6, 11 ~{{RESET}/PB7}, 12 NC, 13 PA7, 14 PA6, 15 PA5, 16 NC, 17 PA4, 18 AVCC, 19 NC, 20 NC, 21 GND, 22 AREF/PA3, 23 PA2, 24 NC, 25 PA1, 26 PA0, 27 NC, 28 NC, 29 NC, 30 PB0, 31 PB1, 32 PB2, 33 GND

## ATtiny26L-8P
designator *  value ATtiny26L-8P  Reference: U
8MHz, 2kB Flash, 128B SRAM, 128B EEPROM, DIP-20; ki_keywords: AVR 8bit Microcontroller tinyAVR; ki_fp_filters: DIP*W7.62mm*; Footprint: Package_DIP:DIP-20_W7.62mm; Datasheet: http://ww1.microchip.com/downloads/en/DeviceDoc/doc1477.pdf; Description_: 8MHz, 2kB Flash, 128B SRAM, 128B EEPROM, DIP-20
pins: 1 PB0, 2 PB1, 3 PB2, 4 PB3, 5 VCC, 6 GND, 7 XTAL1/PB4, 8 XTAL2/PB5, 9 PB6, 10 ~{{RESET}/PB7}, 11 PA7, 12 PA6, 13 PA5, 14 PA4, 15 AVCC, 16 GND, 17 AREF/PA3, 18 PA2, 19 PA1, 20 PA0

## ATtiny26L-8S
designator *  value ATtiny26L-8S  Reference: U
8MHz, 2kB Flash, 128B SRAM, 128B EEPROM, SOIC-20; ki_keywords: AVR 8bit Microcontroller tinyAVR; ki_fp_filters: SOIC*7.5x12.8mm*P1.27mm*; Footprint: Package_SO:SOIC-20W_7.5x12.8mm_P1.27mm; Datasheet: http://ww1.microchip.com/downloads/en/DeviceDoc/doc1477.pdf; Description_: 8MHz, 2kB Flash, 128B SRAM, 128B EEPROM, SOIC-20
pins: 1 PB0, 2 PB1, 3 PB2, 4 PB3, 5 VCC, 6 GND, 7 XTAL1/PB4, 8 XTAL2/PB5, 9 PB6, 10 ~{{RESET}/PB7}, 11 PA7, 12 PA6, 13 PA5, 14 PA4, 15 AVCC, 16 GND, 17 AREF/PA3, 18 PA2, 19 PA1, 20 PA0

## ATtiny28L-4A
designator *  value ATtiny28L-4A  Reference: U
4MHz, 2kB Flash, No SRAM, No EEPROM, TQFP-32; ki_keywords: AVR 8bit Microcontroller tinyAVR IR; ki_fp_filters: TQFP*7x7mm*P0.8mm*; Footprint: Package_QFP:TQFP-32_7x7mm_P0.8mm; Datasheet: http://ww1.microchip.com/downloads/en/DeviceDoc/doc1062.pdf; Description_: 4MHz, 2kB Flash, No SRAM, No EEPROM, TQFP-32
pins: 1 PD3, 2 PD4, 3 NC, 4 VCC, 5 GND, 6 NC, 7 XTAL1, 8 XTAL2, 9 PD5, 10 PD6, 11 PD7, 12 PB0, 13 PB1, 14 PB2, 15 PB3, 16 PB4, 17 PB5, 18 VCC, 19 NC, 20 NC, 21 GND, 22 NC, 23 PB6, 24 PB7, 25 PA2, 26 PA3, 27 PA1, 28 PA0, 29 ~{{RESET}}, 30 PD0, 31 PD1, 32 PD2

## ATtiny28L-4M
designator *  value ATtiny28L-4M  Reference: U
4MHz, 2kB Flash, No SRAM, No EEPROM, QFN-32; ki_keywords: AVR 8bit Microcontroller tinyAVR IR; ki_fp_filters: QFN*1EP*5x5mm*P0.5mm*; Footprint: Package_DFN_QFN:QFN-32-1EP_5x5mm_P0.5mm_EP3.1x3.1mm; Datasheet: http://ww1.microchip.com/downloads/en/DeviceDoc/doc1062.pdf; Description_: 4MHz, 2kB Flash, No SRAM, No EEPROM, QFN-32
pins: 1 PD3, 2 PD4, 3 NC, 4 VCC, 5 GND, 6 NC, 7 XTAL1, 8 XTAL2, 9 PD5, 10 PD6, 11 PD7, 12 PB0, 13 PB1, 14 PB2, 15 PB3, 16 PB4, 17 PB5, 18 VCC, 19 NC, 20 NC, 21 GND, 22 NC, 23 PB6, 24 PB7, 25 PA2, 26 PA3, 27 PA1, 28 PA0, 29 ~{{RESET}}, 30 PD0, 31 PD1, 32 PD2, 33 GND

## ATtiny28L-4P
designator *  value ATtiny28L-4P  Reference: U
4MHz, 2kB Flash, No SRAM, No EEPROM, DIP-28; ki_keywords: AVR 8bit Microcontroller tinyAVR IR; ki_fp_filters: DIP*W7.62mm*; Footprint: Package_DIP:DIP-28_W7.62mm; Datasheet: http://ww1.microchip.com/downloads/en/DeviceDoc/doc1062.pdf; Description_: 4MHz, 2kB Flash, No SRAM, No EEPROM, DIP-28
pins: 1 ~{{RESET}}, 2 PD0, 3 PD1, 4 PD2, 5 PD3, 6 PD4, 7 VCC, 8 GND, 9 XTAL1, 10 XTAL2, 11 PD5, 12 PD6, 13 PD7, 14 PB0, 15 PB1, 16 PB2, 17 PB3, 18 PB4, 19 PB5, 20 VCC, 21 NC, 22 GND, 23 PB6, 24 PB7, 25 PA2, 26 PA3, 27 PA1, 28 PA0

## ATtiny28V-1A
designator *  value ATtiny28V-1A  Reference: U
1.2MHz, 2kB Flash, No SRAM, No EEPROM, TQFP-32; ki_keywords: AVR 8bit Microcontroller tinyAVR IR; ki_fp_filters: TQFP*7x7mm*P0.8mm*; Footprint: Package_QFP:TQFP-32_7x7mm_P0.8mm; Datasheet: http://ww1.microchip.com/downloads/en/DeviceDoc/doc1062.pdf; Description_: 1.2MHz, 2kB Flash, No SRAM, No EEPROM, TQFP-32
pins: 1 PD3, 2 PD4, 3 NC, 4 VCC, 5 GND, 6 NC, 7 XTAL1, 8 XTAL2, 9 PD5, 10 PD6, 11 PD7, 12 PB0, 13 PB1, 14 PB2, 15 PB3, 16 PB4, 17 PB5, 18 VCC, 19 NC, 20 NC, 21 GND, 22 NC, 23 PB6, 24 PB7, 25 PA2, 26 PA3, 27 PA1, 28 PA0, 29 ~{{RESET}}, 30 PD0, 31 PD1, 32 PD2

## ATtiny28V-1M
designator *  value ATtiny28V-1M  Reference: U
1.2MHz, 2kB Flash, No SRAM, No EEPROM, QFN-32; ki_keywords: AVR 8bit Microcontroller tinyAVR IR; ki_fp_filters: QFN*1EP*5x5mm*P0.5mm*; Footprint: Package_DFN_QFN:QFN-32-1EP_5x5mm_P0.5mm_EP3.1x3.1mm; Datasheet: http://ww1.microchip.com/downloads/en/DeviceDoc/doc1062.pdf; Description_: 1.2MHz, 2kB Flash, No SRAM, No EEPROM, QFN-32
pins: 1 PD3, 2 PD4, 3 NC, 4 VCC, 5 GND, 6 NC, 7 XTAL1, 8 XTAL2, 9 PD5, 10 PD6, 11 PD7, 12 PB0, 13 PB1, 14 PB2, 15 PB3, 16 PB4, 17 PB5, 18 VCC, 19 NC, 20 NC, 21 GND, 22 NC, 23 PB6, 24 PB7, 25 PA2, 26 PA3, 27 PA1, 28 PA0, 29 ~{{RESET}}, 30 PD0, 31 PD1, 32 PD2, 33 GND

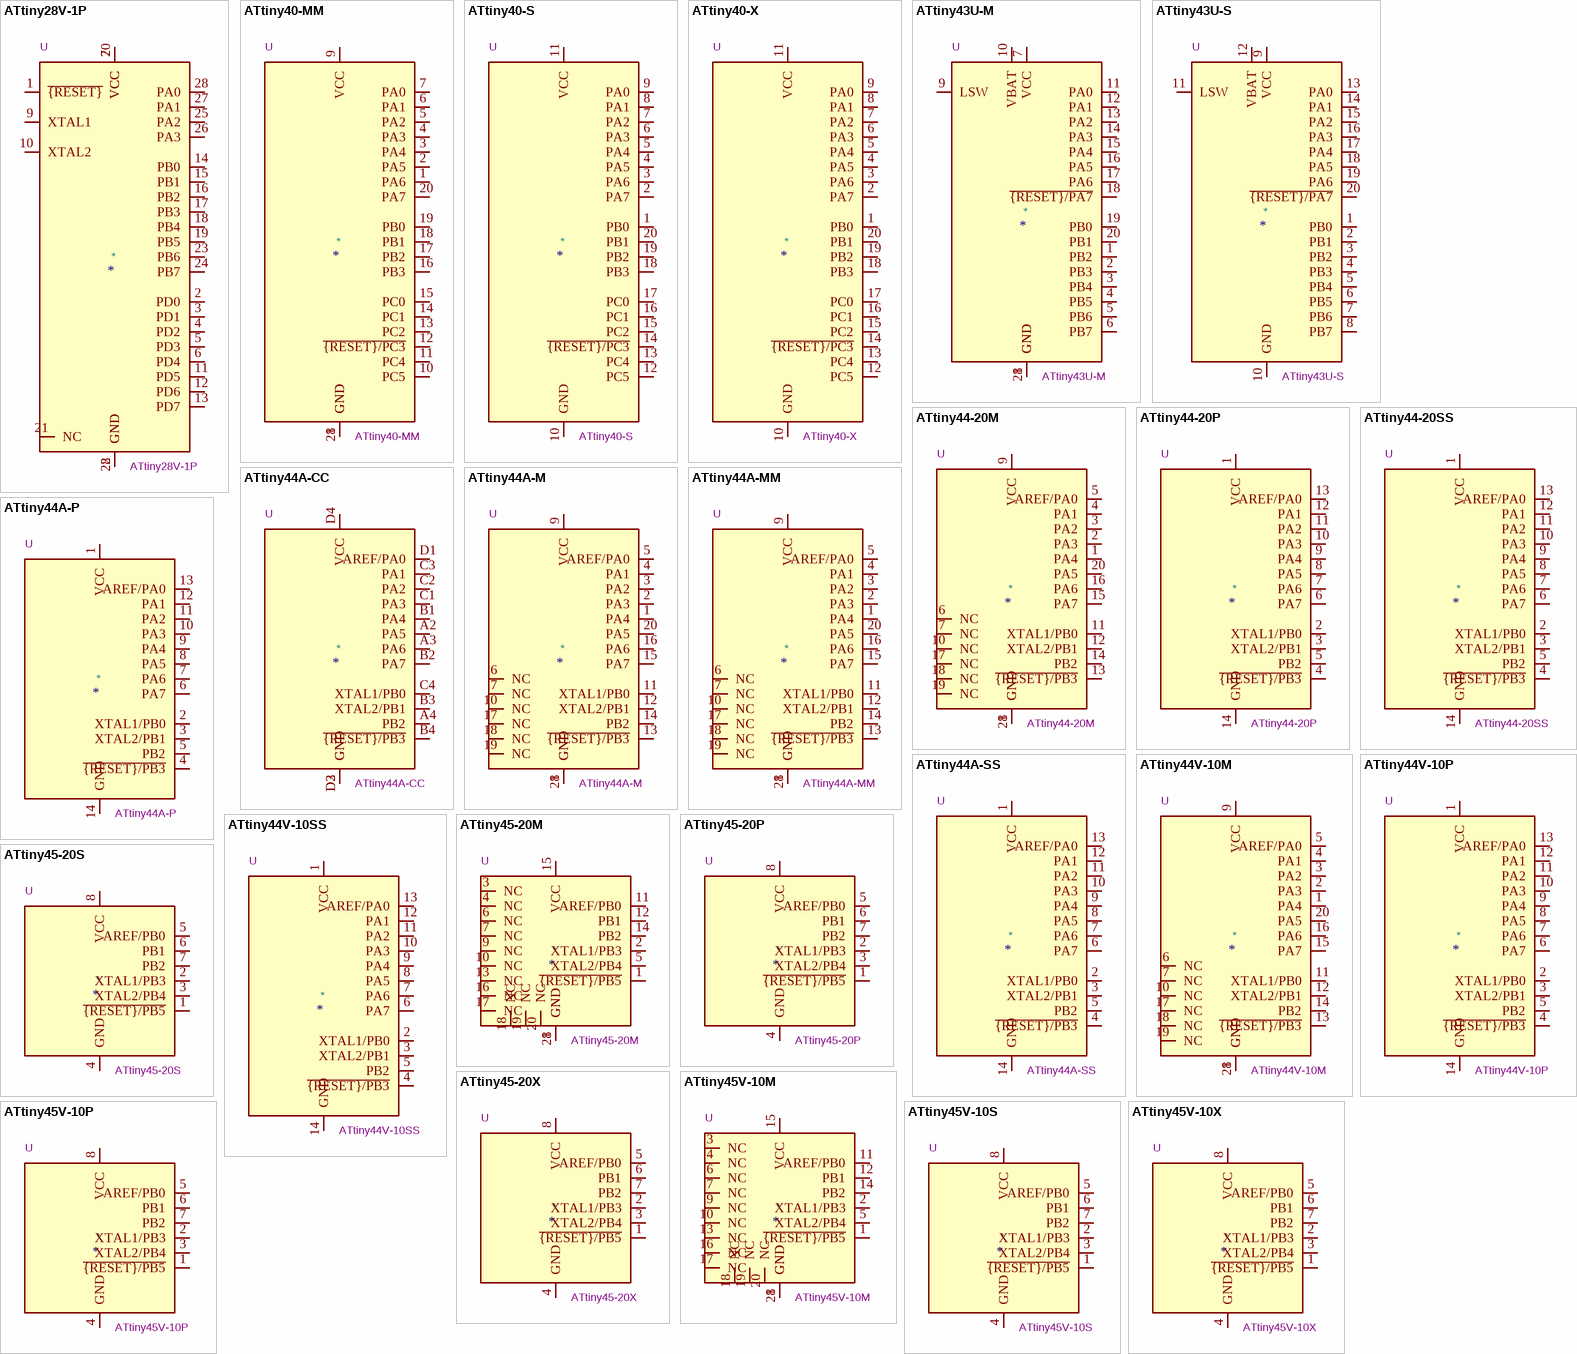
[diagram p2: symbols ATtiny28V-1P to ATtiny45V-10X]

## ATtiny28V-1P
designator *  value ATtiny28V-1P  Reference: U
1.2MHz, 2kB Flash, No SRAM, No EEPROM, DIP-28; ki_keywords: AVR 8bit Microcontroller tinyAVR IR; ki_fp_filters: DIP*W7.62mm*; Footprint: Package_DIP:DIP-28_W7.62mm; Datasheet: http://ww1.microchip.com/downloads/en/DeviceDoc/doc1062.pdf; Description_: 1.2MHz, 2kB Flash, No SRAM, No EEPROM, DIP-28
pins: 1 ~{{RESET}}, 2 PD0, 3 PD1, 4 PD2, 5 PD3, 6 PD4, 7 VCC, 8 GND, 9 XTAL1, 10 XTAL2, 11 PD5, 12 PD6, 13 PD7, 14 PB0, 15 PB1, 16 PB2, 17 PB3, 18 PB4, 19 PB5, 20 VCC, 21 NC, 22 GND, 23 PB6, 24 PB7, 25 PA2, 26 PA3, 27 PA1, 28 PA0

## ATtiny40-MM
designator *  value ATtiny40-MM  Reference: U
12MHz, 4kB Flash, 256B SRAM, No EEPROM, QFN-20; ki_keywords: AVR 8bit Microcontroller tinyAVR; ki_fp_filters: QFN*1EP*3x3mm*P0.45mm*; Footprint: Package_DFN_QFN:QFN-20-1EP_3x3mm_P0.45mm_EP1.6x1.6mm; Datasheet: http://ww1.microchip.com/downloads/en/DeviceDoc/atmel-8263-8-bit-avr-microcontroller-tinyavr-attiny40_datasheet.pdf; Description_: 12MHz, 4kB Flash, 256B SRAM, No EEPROM, QFN-20
pins: 1 PA6, 2 PA5, 3 PA4, 4 PA3, 5 PA2, 6 PA1, 7 PA0, 8 GND, 9 VCC, 10 PC5, 11 PC4, 12 ~{{RESET}/PC3}, 13 PC2, 14 PC1, 15 PC0, 16 PB3, 17 PB2, 18 PB1, 19 PB0, 20 PA7, 21 GND

## ATtiny40-S
designator *  value ATtiny40-S  Reference: U
12MHz, 4kB Flash, 256B SRAM, No EEPROM, SOIC-20; ki_keywords: AVR 8bit Microcontroller tinyAVR; ki_fp_filters: SOIC*7.5x12.8mm*P1.27mm*; Footprint: Package_SO:SOIC-20W_7.5x12.8mm_P1.27mm; Datasheet: http://ww1.microchip.com/downloads/en/DeviceDoc/atmel-8263-8-bit-avr-microcontroller-tinyavr-attiny40_datasheet.pdf; Description_: 12MHz, 4kB Flash, 256B SRAM, No EEPROM, SOIC-20
pins: 1 PB0, 2 PA7, 3 PA6, 4 PA5, 5 PA4, 6 PA3, 7 PA2, 8 PA1, 9 PA0, 10 GND, 11 VCC, 12 PC5, 13 PC4, 14 ~{{RESET}/PC3}, 15 PC2, 16 PC1, 17 PC0, 18 PB3, 19 PB2, 20 PB1

## ATtiny40-X
designator *  value ATtiny40-X  Reference: U
12MHz, 4kB Flash, 256B SRAM, No EEPROM, TSSOP-20; ki_keywords: AVR 8bit Microcontroller tinyAVR; ki_fp_filters: TSSOP*4.4x6.5mm*P0.65mm*; Footprint: Package_SO:TSSOP-20_4.4x6.5mm_P0.65mm; Datasheet: http://ww1.microchip.com/downloads/en/DeviceDoc/atmel-8263-8-bit-avr-microcontroller-tinyavr-attiny40_datasheet.pdf; Description_: 12MHz, 4kB Flash, 256B SRAM, No EEPROM, TSSOP-20
pins: 1 PB0, 2 PA7, 3 PA6, 4 PA5, 5 PA4, 6 PA3, 7 PA2, 8 PA1, 9 PA0, 10 GND, 11 VCC, 12 PC5, 13 PC4, 14 ~{{RESET}/PC3}, 15 PC2, 16 PC1, 17 PC0, 18 PB3, 19 PB2, 20 PB1

## ATtiny43U-M
designator *  value ATtiny43U-M  Reference: U
8MHz, 4kB Flash, 256B SRAM, 64B EEPROM, QFN-20; ki_keywords: AVR 8bit Microcontroller tinyAVR Battery Boost; ki_fp_filters: QFN*1EP*4x4mm*P0.5mm*; Footprint: Package_DFN_QFN:QFN-20-1EP_4x4mm_P0.5mm_EP2.6x2.6mm; Datasheet: http://ww1.microchip.com/downloads/en/DeviceDoc/doc8048.pdf; Description_: 8MHz, 4kB Flash, 256B SRAM, 64B EEPROM, QFN-20
pins: 1 PB2, 2 PB3, 3 PB4, 4 PB5, 5 PB6, 6 PB7, 7 VCC, 8 GND, 9 LSW, 10 VBAT, 11 PA0, 12 PA1, 13 PA2, 14 PA3, 15 PA4, 16 PA5, 17 PA6, 18 ~{{RESET}/PA7}, 19 PB0, 20 PB1, 21 GND

## ATtiny43U-S
designator *  value ATtiny43U-S  Reference: U
8MHz, 4kB Flash, 256B SRAM, 64B EEPROM, SOIC-20; ki_keywords: AVR 8bit Microcontroller tinyAVR Battery Boost; ki_fp_filters: SOIC*7.5x12.8mm*P1.27mm*; Footprint: Package_SO:SOIC-20W_7.5x12.8mm_P1.27mm; Datasheet: http://ww1.microchip.com/downloads/en/DeviceDoc/doc8048.pdf; Description_: 8MHz, 4kB Flash, 256B SRAM, 64B EEPROM, SOIC-20
pins: 1 PB0, 2 PB1, 3 PB2, 4 PB3, 5 PB4, 6 PB5, 7 PB6, 8 PB7, 9 VCC, 10 GND, 11 LSW, 12 VBAT, 13 PA0, 14 PA1, 15 PA2, 16 PA3, 17 PA4, 18 PA5, 19 PA6, 20 ~{{RESET}/PA7}

## ATtiny44-20M
designator *  value ATtiny44-20M  Reference: U
20MHz, 4kB Flash, 256B SRAM, 256B EEPROM, debugWIRE, QFN-20; ki_keywords: AVR 8bit Microcontroller tinyAVR; ki_fp_filters: QFN*1EP*4x4mm*P0.5mm*; Footprint: Package_DFN_QFN:QFN-20-1EP_4x4mm_P0.5mm_EP2.6x2.6mm; Datasheet: http://ww1.microchip.com/downloads/en/DeviceDoc/doc8006.pdf; Description_: 20MHz, 4kB Flash, 256B SRAM, 256B EEPROM, debugWIRE, QFN-20
pins: 1 PA4, 2 PA3, 3 PA2, 4 PA1, 5 AREF/PA0, 6 NC, 7 NC, 8 GND, 9 VCC, 10 NC, 11 XTAL1/PB0, 12 XTAL2/PB1, 13 ~{{RESET}/PB3}, 14 PB2, 15 PA7, 16 PA6, 17 NC, 18 NC, 19 NC, 20 PA5, 21 GND

## ATtiny44-20P
designator *  value ATtiny44-20P  Reference: U
20MHz, 4kB Flash, 256B SRAM, 256B EEPROM, debugWIRE, DIP-14; ki_keywords: AVR 8bit Microcontroller tinyAVR; ki_fp_filters: DIP*W7.62mm*; Footprint: Package_DIP:DIP-14_W7.62mm; Datasheet: http://ww1.microchip.com/downloads/en/DeviceDoc/doc8006.pdf; Description_: 20MHz, 4kB Flash, 256B SRAM, 256B EEPROM, debugWIRE, DIP-14
pins: 1 VCC, 2 XTAL1/PB0, 3 XTAL2/PB1, 4 ~{{RESET}/PB3}, 5 PB2, 6 PA7, 7 PA6, 8 PA5, 9 PA4, 10 PA3, 11 PA2, 12 PA1, 13 AREF/PA0, 14 GND

## ATtiny44-20SS
designator *  value ATtiny44-20SS  Reference: U
20MHz, 4kB Flash, 256B SRAM, 256B EEPROM, debugWIRE, SOIC-14; ki_keywords: AVR 8bit Microcontroller tinyAVR; ki_fp_filters: SOIC*3.9x8.7mm*P1.27mm*; Footprint: Package_SO:SOIC-14_3.9x8.7mm_P1.27mm; Datasheet: http://ww1.microchip.com/downloads/en/DeviceDoc/doc8006.pdf; Description_: 20MHz, 4kB Flash, 256B SRAM, 256B EEPROM, debugWIRE, SOIC-14
pins: 1 VCC, 2 XTAL1/PB0, 3 XTAL2/PB1, 4 ~{{RESET}/PB3}, 5 PB2, 6 PA7, 7 PA6, 8 PA5, 9 PA4, 10 PA3, 11 PA2, 12 PA1, 13 AREF/PA0, 14 GND

## ATtiny44A-CC
designator *  value ATtiny44A-CC  Reference: U
20MHz, 4kB Flash, 256B SRAM, 256B EEPROM, debugWIRE, UFBGA-15; ki_keywords: AVR 8bit Microcontroller tinyAVR; ki_fp_filters: UFBGA*3.0x3.0mm*Layout4x4*P0.65mm*; Footprint: Package_BGA:UFBGA-15_3.0x3.0mm_Layout4x4_P0.65mm; Datasheet: http://ww1.microchip.com/downloads/en/DeviceDoc/doc8183.pdf; Description_: 20MHz, 4kB Flash, 256B SRAM, 256B EEPROM, debugWIRE, UFBGA-15
pins: A2 PA5, A3 PA6, A4 PB2, B1 PA4, B2 PA7, B3 XTAL2/PB1, B4 ~{{RESET}/PB3}, C1 PA3, C2 PA2, C3 PA1, C4 XTAL1/PB0, D1 AREF/PA0, D2 GND, D3 GND, D4 VCC

## ATtiny44A-M
designator *  value ATtiny44A-M  Reference: U
20MHz, 4kB Flash, 256B SRAM, 256B EEPROM, debugWIRE, QFN-20; ki_keywords: AVR 8bit Microcontroller tinyAVR; ki_fp_filters: QFN*1EP*4x4mm*P0.5mm*; Footprint: Package_DFN_QFN:QFN-20-1EP_4x4mm_P0.5mm_EP2.6x2.6mm; Datasheet: http://ww1.microchip.com/downloads/en/DeviceDoc/doc8183.pdf; Description_: 20MHz, 4kB Flash, 256B SRAM, 256B EEPROM, debugWIRE, QFN-20
pins: 1 PA4, 2 PA3, 3 PA2, 4 PA1, 5 AREF/PA0, 6 NC, 7 NC, 8 GND, 9 VCC, 10 NC, 11 XTAL1/PB0, 12 XTAL2/PB1, 13 ~{{RESET}/PB3}, 14 PB2, 15 PA7, 16 PA6, 17 NC, 18 NC, 19 NC, 20 PA5, 21 GND

## ATtiny44A-MM
designator *  value ATtiny44A-MM  Reference: U
20MHz, 4kB Flash, 256B SRAM, 256B EEPROM, debugWIRE, QFN-20; ki_keywords: AVR 8bit Microcontroller tinyAVR; ki_fp_filters: QFN*1EP*3x3mm*P0.45mm*; Footprint: Package_DFN_QFN:QFN-20-1EP_3x3mm_P0.45mm_EP1.6x1.6mm; Datasheet: http://ww1.microchip.com/downloads/en/DeviceDoc/doc8183.pdf; Description_: 20MHz, 4kB Flash, 256B SRAM, 256B EEPROM, debugWIRE, QFN-20
pins: 1 PA4, 2 PA3, 3 PA2, 4 PA1, 5 AREF/PA0, 6 NC, 7 NC, 8 GND, 9 VCC, 10 NC, 11 XTAL1/PB0, 12 XTAL2/PB1, 13 ~{{RESET}/PB3}, 14 PB2, 15 PA7, 16 PA6, 17 NC, 18 NC, 19 NC, 20 PA5, 21 GND

## ATtiny44A-P
designator *  value ATtiny44A-P  Reference: U
20MHz, 4kB Flash, 256B SRAM, 256B EEPROM, debugWIRE, DIP-14; ki_keywords: AVR 8bit Microcontroller tinyAVR; ki_fp_filters: DIP*W7.62mm*; Footprint: Package_DIP:DIP-14_W7.62mm; Datasheet: http://ww1.microchip.com/downloads/en/DeviceDoc/doc8183.pdf; Description_: 20MHz, 4kB Flash, 256B SRAM, 256B EEPROM, debugWIRE, DIP-14
pins: 1 VCC, 2 XTAL1/PB0, 3 XTAL2/PB1, 4 ~{{RESET}/PB3}, 5 PB2, 6 PA7, 7 PA6, 8 PA5, 9 PA4, 10 PA3, 11 PA2, 12 PA1, 13 AREF/PA0, 14 GND

## ATtiny44A-SS
designator *  value ATtiny44A-SS  Reference: U
20MHz, 4kB Flash, 256B SRAM, 256B EEPROM, debugWIRE, SOIC-14; ki_keywords: AVR 8bit Microcontroller tinyAVR; ki_fp_filters: SOIC*3.9x8.7mm*P1.27mm*; Footprint: Package_SO:SOIC-14_3.9x8.7mm_P1.27mm; Datasheet: http://ww1.microchip.com/downloads/en/DeviceDoc/doc8183.pdf; Description_: 20MHz, 4kB Flash, 256B SRAM, 256B EEPROM, debugWIRE, SOIC-14
pins: 1 VCC, 2 XTAL1/PB0, 3 XTAL2/PB1, 4 ~{{RESET}/PB3}, 5 PB2, 6 PA7, 7 PA6, 8 PA5, 9 PA4, 10 PA3, 11 PA2, 12 PA1, 13 AREF/PA0, 14 GND

## ATtiny44V-10M
designator *  value ATtiny44V-10M  Reference: U
10MHz, 4kB Flash, 256B SRAM, 256B EEPROM, debugWIRE, QFN-20; ki_keywords: AVR 8bit Microcontroller tinyAVR; ki_fp_filters: QFN*1EP*4x4mm*P0.5mm*; Footprint: Package_DFN_QFN:QFN-20-1EP_4x4mm_P0.5mm_EP2.6x2.6mm; Datasheet: http://ww1.microchip.com/downloads/en/DeviceDoc/doc8006.pdf; Description_: 10MHz, 4kB Flash, 256B SRAM, 256B EEPROM, debugWIRE, QFN-20
pins: 1 PA4, 2 PA3, 3 PA2, 4 PA1, 5 AREF/PA0, 6 NC, 7 NC, 8 GND, 9 VCC, 10 NC, 11 XTAL1/PB0, 12 XTAL2/PB1, 13 ~{{RESET}/PB3}, 14 PB2, 15 PA7, 16 PA6, 17 NC, 18 NC, 19 NC, 20 PA5, 21 GND

## ATtiny44V-10P
designator *  value ATtiny44V-10P  Reference: U
10MHz, 4kB Flash, 256B SRAM, 256B EEPROM, debugWIRE, DIP-14; ki_keywords: AVR 8bit Microcontroller tinyAVR; ki_fp_filters: DIP*W7.62mm*; Footprint: Package_DIP:DIP-14_W7.62mm; Datasheet: http://ww1.microchip.com/downloads/en/DeviceDoc/doc8006.pdf; Description_: 10MHz, 4kB Flash, 256B SRAM, 256B EEPROM, debugWIRE, DIP-14
pins: 1 VCC, 2 XTAL1/PB0, 3 XTAL2/PB1, 4 ~{{RESET}/PB3}, 5 PB2, 6 PA7, 7 PA6, 8 PA5, 9 PA4, 10 PA3, 11 PA2, 12 PA1, 13 AREF/PA0, 14 GND

## ATtiny44V-10SS
designator *  value ATtiny44V-10SS  Reference: U
10MHz, 4kB Flash, 256B SRAM, 256B EEPROM, debugWIRE, SOIC-14; ki_keywords: AVR 8bit Microcontroller tinyAVR; ki_fp_filters: SOIC*3.9x8.7mm*P1.27mm*; Footprint: Package_SO:SOIC-14_3.9x8.7mm_P1.27mm; Datasheet: http://ww1.microchip.com/downloads/en/DeviceDoc/doc8006.pdf; Description_: 10MHz, 4kB Flash, 256B SRAM, 256B EEPROM, debugWIRE, SOIC-14
pins: 1 VCC, 2 XTAL1/PB0, 3 XTAL2/PB1, 4 ~{{RESET}/PB3}, 5 PB2, 6 PA7, 7 PA6, 8 PA5, 9 PA4, 10 PA3, 11 PA2, 12 PA1, 13 AREF/PA0, 14 GND

## ATtiny45-20M
designator *  value ATtiny45-20M  Reference: U
20MHz, 4kB Flash, 256B SRAM, 256B EEPROM, debugWIRE, QFN-20; ki_keywords: AVR 8bit Microcontroller tinyAVR; ki_fp_filters: QFN*1EP*4x4mm*P0.5mm*; Footprint: Package_DFN_QFN:QFN-20-1EP_4x4mm_P0.5mm_EP2.6x2.6mm; Datasheet: http://ww1.microchip.com/downloads/en/DeviceDoc/atmel-2586-avr-8-bit-microcontroller-attiny25-attiny45-attiny85_datasheet.pdf; Description_: 20MHz, 4kB Flash, 256B SRAM, 256B EEPROM, debugWIRE, QFN-20
pins: 1 ~{{RESET}/PB5}, 2 XTAL1/PB3, 3 NC, 4 NC, 5 XTAL2/PB4, 6 NC, 7 NC, 8 GND, 9 NC, 10 NC, 11 AREF/PB0, 12 PB1, 13 NC, 14 PB2, 15 VCC, 16 NC, 17 NC, 18 NC, 19 NC, 20 NC, 21 GND

## ATtiny45-20P
designator *  value ATtiny45-20P  Reference: U
20MHz, 4kB Flash, 256B SRAM, 256B EEPROM, debugWIRE, DIP-8; ki_keywords: AVR 8bit Microcontroller tinyAVR; ki_fp_filters: DIP*W7.62mm*; Footprint: Package_DIP:DIP-8_W7.62mm; Datasheet: http://ww1.microchip.com/downloads/en/DeviceDoc/atmel-2586-avr-8-bit-microcontroller-attiny25-attiny45-attiny85_datasheet.pdf; Description_: 20MHz, 4kB Flash, 256B SRAM, 256B EEPROM, debugWIRE, DIP-8
pins: 1 ~{{RESET}/PB5}, 2 XTAL1/PB3, 3 XTAL2/PB4, 4 GND, 5 AREF/PB0, 6 PB1, 7 PB2, 8 VCC

## ATtiny45-20S
designator *  value ATtiny45-20S  Reference: U
20MHz, 4kB Flash, 256B SRAM, 256B EEPROM, debugWIRE, SOIC-8; ki_keywords: AVR 8bit Microcontroller tinyAVR; ki_fp_filters: *SOIC*5.3x5.3mm*P1.27mm*; Footprint: Package_SO:SOIC-8_5.3x5.3mm_P1.27mm; Datasheet: http://ww1.microchip.com/downloads/en/DeviceDoc/atmel-2586-avr-8-bit-microcontroller-attiny25-attiny45-attiny85_datasheet.pdf; Description_: 20MHz, 4kB Flash, 256B SRAM, 256B EEPROM, debugWIRE, SOIC-8
pins: 1 ~{{RESET}/PB5}, 2 XTAL1/PB3, 3 XTAL2/PB4, 4 GND, 5 AREF/PB0, 6 PB1, 7 PB2, 8 VCC

## ATtiny45-20X
designator *  value ATtiny45-20X  Reference: U
20MHz, 4kB Flash, 256B SRAM, 256B EEPROM, debugWIRE, TSSOP-8; ki_keywords: AVR 8bit Microcontroller tinyAVR; ki_fp_filters: TSSOP*4.4x3mm*P0.65mm*; Footprint: Package_SO:TSSOP-8_4.4x3mm_P0.65mm; Datasheet: http://ww1.microchip.com/downloads/en/DeviceDoc/atmel-2586-avr-8-bit-microcontroller-attiny25-attiny45-attiny85_datasheet.pdf; Description_: 20MHz, 4kB Flash, 256B SRAM, 256B EEPROM, debugWIRE, TSSOP-8
pins: 1 ~{{RESET}/PB5}, 2 XTAL1/PB3, 3 XTAL2/PB4, 4 GND, 5 AREF/PB0, 6 PB1, 7 PB2, 8 VCC

## ATtiny45V-10M
designator *  value ATtiny45V-10M  Reference: U
10MHz, 4kB Flash, 256B SRAM, 256B EEPROM, debugWIRE, QFN-20; ki_keywords: AVR 8bit Microcontroller tinyAVR; ki_fp_filters: QFN*1EP*4x4mm*P0.5mm*; Footprint: Package_DFN_QFN:QFN-20-1EP_4x4mm_P0.5mm_EP2.6x2.6mm; Datasheet: http://ww1.microchip.com/downloads/en/DeviceDoc/atmel-2586-avr-8-bit-microcontroller-attiny25-attiny45-attiny85_datasheet.pdf; Description_: 10MHz, 4kB Flash, 256B SRAM, 256B EEPROM, debugWIRE, QFN-20
pins: 1 ~{{RESET}/PB5}, 2 XTAL1/PB3, 3 NC, 4 NC, 5 XTAL2/PB4, 6 NC, 7 NC, 8 GND, 9 NC, 10 NC, 11 AREF/PB0, 12 PB1, 13 NC, 14 PB2, 15 VCC, 16 NC, 17 NC, 18 NC, 19 NC, 20 NC, 21 GND

## ATtiny45V-10P
designator *  value ATtiny45V-10P  Reference: U
10MHz, 4kB Flash, 256B SRAM, 256B EEPROM, debugWIRE, DIP-8; ki_keywords: AVR 8bit Microcontroller tinyAVR; ki_fp_filters: DIP*W7.62mm*; Footprint: Package_DIP:DIP-8_W7.62mm; Datasheet: http://ww1.microchip.com/downloads/en/DeviceDoc/atmel-2586-avr-8-bit-microcontroller-attiny25-attiny45-attiny85_datasheet.pdf; Description_: 10MHz, 4kB Flash, 256B SRAM, 256B EEPROM, debugWIRE, DIP-8
pins: 1 ~{{RESET}/PB5}, 2 XTAL1/PB3, 3 XTAL2/PB4, 4 GND, 5 AREF/PB0, 6 PB1, 7 PB2, 8 VCC

## ATtiny45V-10S
designator *  value ATtiny45V-10S  Reference: U
10MHz, 4kB Flash, 256B SRAM, 256B EEPROM, debugWIRE, SOIC-8; ki_keywords: AVR 8bit Microcontroller tinyAVR; ki_fp_filters: *SOIC*5.3x5.3mm*P1.27mm*; Footprint: Package_SO:SOIC-8_5.3x5.3mm_P1.27mm; Datasheet: http://ww1.microchip.com/downloads/en/DeviceDoc/atmel-2586-avr-8-bit-microcontroller-attiny25-attiny45-attiny85_datasheet.pdf; Description_: 10MHz, 4kB Flash, 256B SRAM, 256B EEPROM, debugWIRE, SOIC-8
pins: 1 ~{{RESET}/PB5}, 2 XTAL1/PB3, 3 XTAL2/PB4, 4 GND, 5 AREF/PB0, 6 PB1, 7 PB2, 8 VCC

## ATtiny45V-10X
designator *  value ATtiny45V-10X  Reference: U
10MHz, 4kB Flash, 256B SRAM, 256B EEPROM, debugWIRE, TSSOP-8; ki_keywords: AVR 8bit Microcontroller tinyAVR; ki_fp_filters: TSSOP*4.4x3mm*P0.65mm*; Footprint: Package_SO:TSSOP-8_4.4x3mm_P0.65mm; Datasheet: http://ww1.microchip.com/downloads/en/DeviceDoc/atmel-2586-avr-8-bit-microcontroller-attiny25-attiny45-attiny85_datasheet.pdf; Description_: 10MHz, 4kB Flash, 256B SRAM, 256B EEPROM, debugWIRE, TSSOP-8
pins: 1 ~{{RESET}/PB5}, 2 XTAL1/PB3, 3 XTAL2/PB4, 4 GND, 5 AREF/PB0, 6 PB1, 7 PB2, 8 VCC

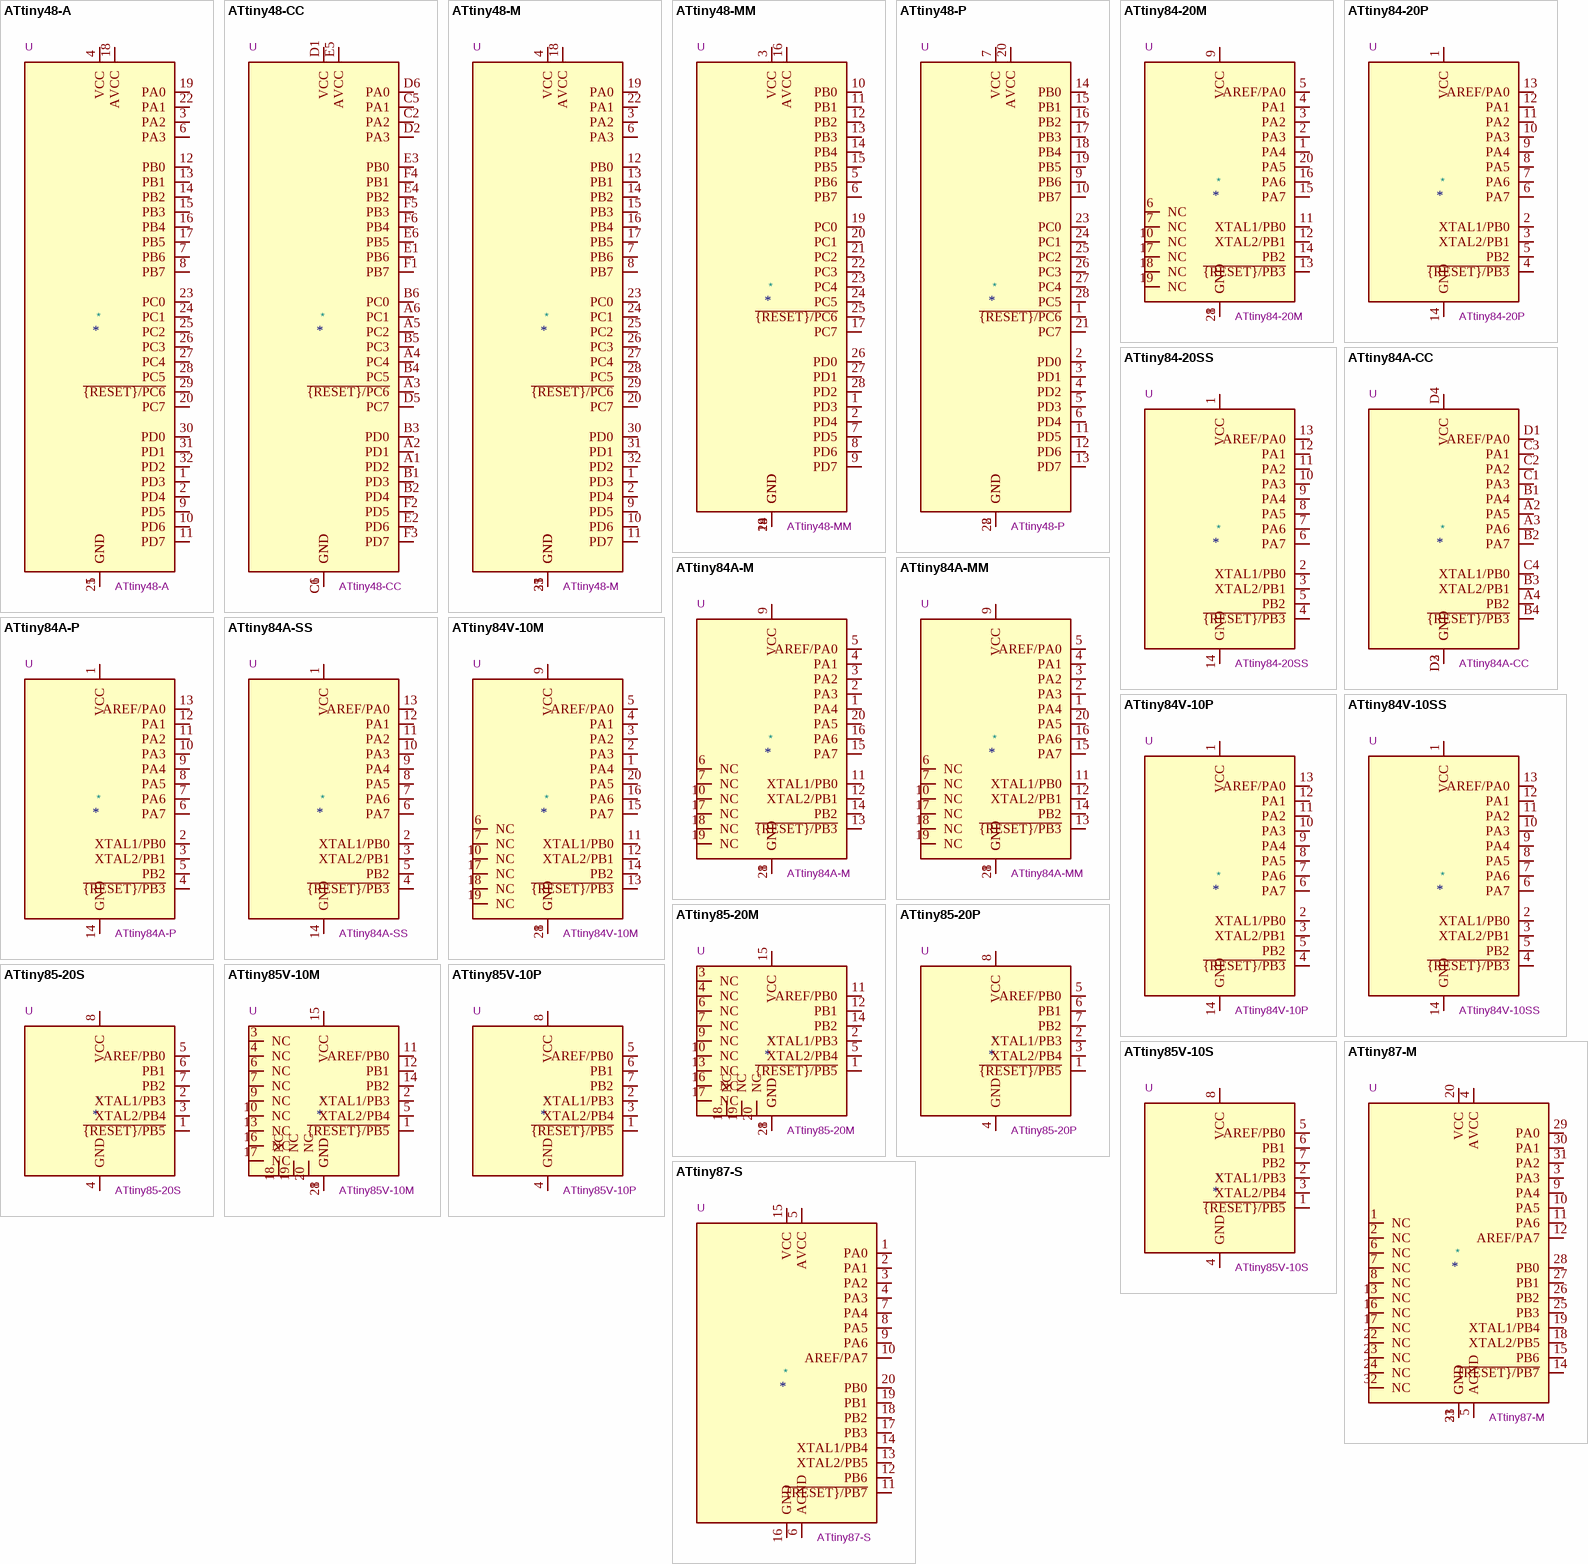
[diagram p3: symbols ATtiny48-A to ATtiny87-S]

## ATtiny48-A
designator *  value ATtiny48-A  Reference: U
12MHz, 4kB Flash, 256B SRAM, 64B EEPROM, TQFP-32; ki_keywords: AVR 8bit Microcontroller tinyAVR; ki_fp_filters: TQFP*7x7mm*P0.8mm*; Footprint: Package_QFP:TQFP-32_7x7mm_P0.8mm; Datasheet: http://ww1.microchip.com/downloads/en/DeviceDoc/doc8008.pdf; Description_: 12MHz, 4kB Flash, 256B SRAM, 64B EEPROM, TQFP-32
pins: 1 PD3, 2 PD4, 3 PA2, 4 VCC, 5 GND, 6 PA3, 7 PB6, 8 PB7, 9 PD5, 10 PD6, 11 PD7, 12 PB0, 13 PB1, 14 PB2, 15 PB3, 16 PB4, 17 PB5, 18 AVCC, 19 PA0, 20 PC7, 21 GND, 22 PA1, 23 PC0, 24 PC1, 25 PC2, 26 PC3, 27 PC4, 28 PC5, 29 ~{{RESET}/PC6}, 30 PD0, 31 PD1, 32 PD2

## ATtiny48-CC
designator *  value ATtiny48-CC  Reference: U
12MHz, 4kB Flash, 256B SRAM, 64B EEPROM, UFBGA-32; ki_keywords: AVR 8bit Microcontroller tinyAVR; ki_fp_filters: UFBGA*4.0x4.0mm*Layout6x6*P0.5mm*; Footprint: Package_BGA:UFBGA-32_4.0x4.0mm_Layout6x6_P0.5mm; Datasheet: http://ww1.microchip.com/downloads/en/DeviceDoc/doc8008.pdf; Description_: 12MHz, 4kB Flash, 256B SRAM, 64B EEPROM, UFBGA-32
pins: A1 PD2, A2 PD1, A3 ~{{RESET}/PC6}, A4 PC4, A5 PC2, A6 PC1, B1 PD3, B2 PD4, B3 PD0, B4 PC5, B5 PC3, B6 PC0, C1 GND, C2 PA2, C5 PA1, C6 GND, D1 VCC, D2 PA3, D5 PC7, D6 PA0, E1 PB6, E2 PD6, E3 PB0, E4 PB2, E5 AVCC, E6 PB5, F1 PB7, F2 PD5, F3 PD7, F4 PB1, F5 PB3, F6 PB4

## ATtiny48-M
designator *  value ATtiny48-M  Reference: U
12MHz, 4kB Flash, 256B SRAM, 64B EEPROM, QFN-32; ki_keywords: AVR 8bit Microcontroller tinyAVR; ki_fp_filters: QFN*1EP*5x5mm*P0.5mm*; Footprint: Package_DFN_QFN:QFN-32-1EP_5x5mm_P0.5mm_EP3.1x3.1mm; Datasheet: http://ww1.microchip.com/downloads/en/DeviceDoc/doc8008.pdf; Description_: 12MHz, 4kB Flash, 256B SRAM, 64B EEPROM, QFN-32
pins: 1 PD3, 2 PD4, 3 PA2, 4 VCC, 5 GND, 6 PA3, 7 PB6, 8 PB7, 9 PD5, 10 PD6, 11 PD7, 12 PB0, 13 PB1, 14 PB2, 15 PB3, 16 PB4, 17 PB5, 18 AVCC, 19 PA0, 20 PC7, 21 GND, 22 PA1, 23 PC0, 24 PC1, 25 PC2, 26 PC3, 27 PC4, 28 PC5, 29 ~{{RESET}/PC6}, 30 PD0, 31 PD1, 32 PD2, 33 GND

## ATtiny48-MM
designator *  value ATtiny48-MM  Reference: U
12MHz, 4kB Flash, 256B SRAM, 64B EEPROM, QFN-28; ki_keywords: AVR 8bit Microcontroller tinyAVR; ki_fp_filters: QFN*1EP*4x4mm*P0.45mm*; Footprint: Package_DFN_QFN:QFN-28-1EP_4x4mm_P0.45mm_EP2.4x2.4mm; Datasheet: http://ww1.microchip.com/downloads/en/DeviceDoc/doc8008.pdf; Description_: 12MHz, 4kB Flash, 256B SRAM, 64B EEPROM, QFN-28
pins: 1 PD3, 2 PD4, 3 VCC, 4 GND, 5 PB6, 6 PB7, 7 PD5, 8 PD6, 9 PD7, 10 PB0, 11 PB1, 12 PB2, 13 PB3, 14 PB4, 15 PB5, 16 AVCC, 17 PC7, 18 GND, 19 PC0, 20 PC1, 21 PC2, 22 PC3, 23 PC4, 24 PC5, 25 ~{{RESET}/PC6}, 26 PD0, 27 PD1, 28 PD2, 29 GND